# Altium integrated library Xilinx Virtex-E.IntLib: 288 symbols (part 1 of 73)
Pins are listed as number, name and electrical type; pins without a type are passive.

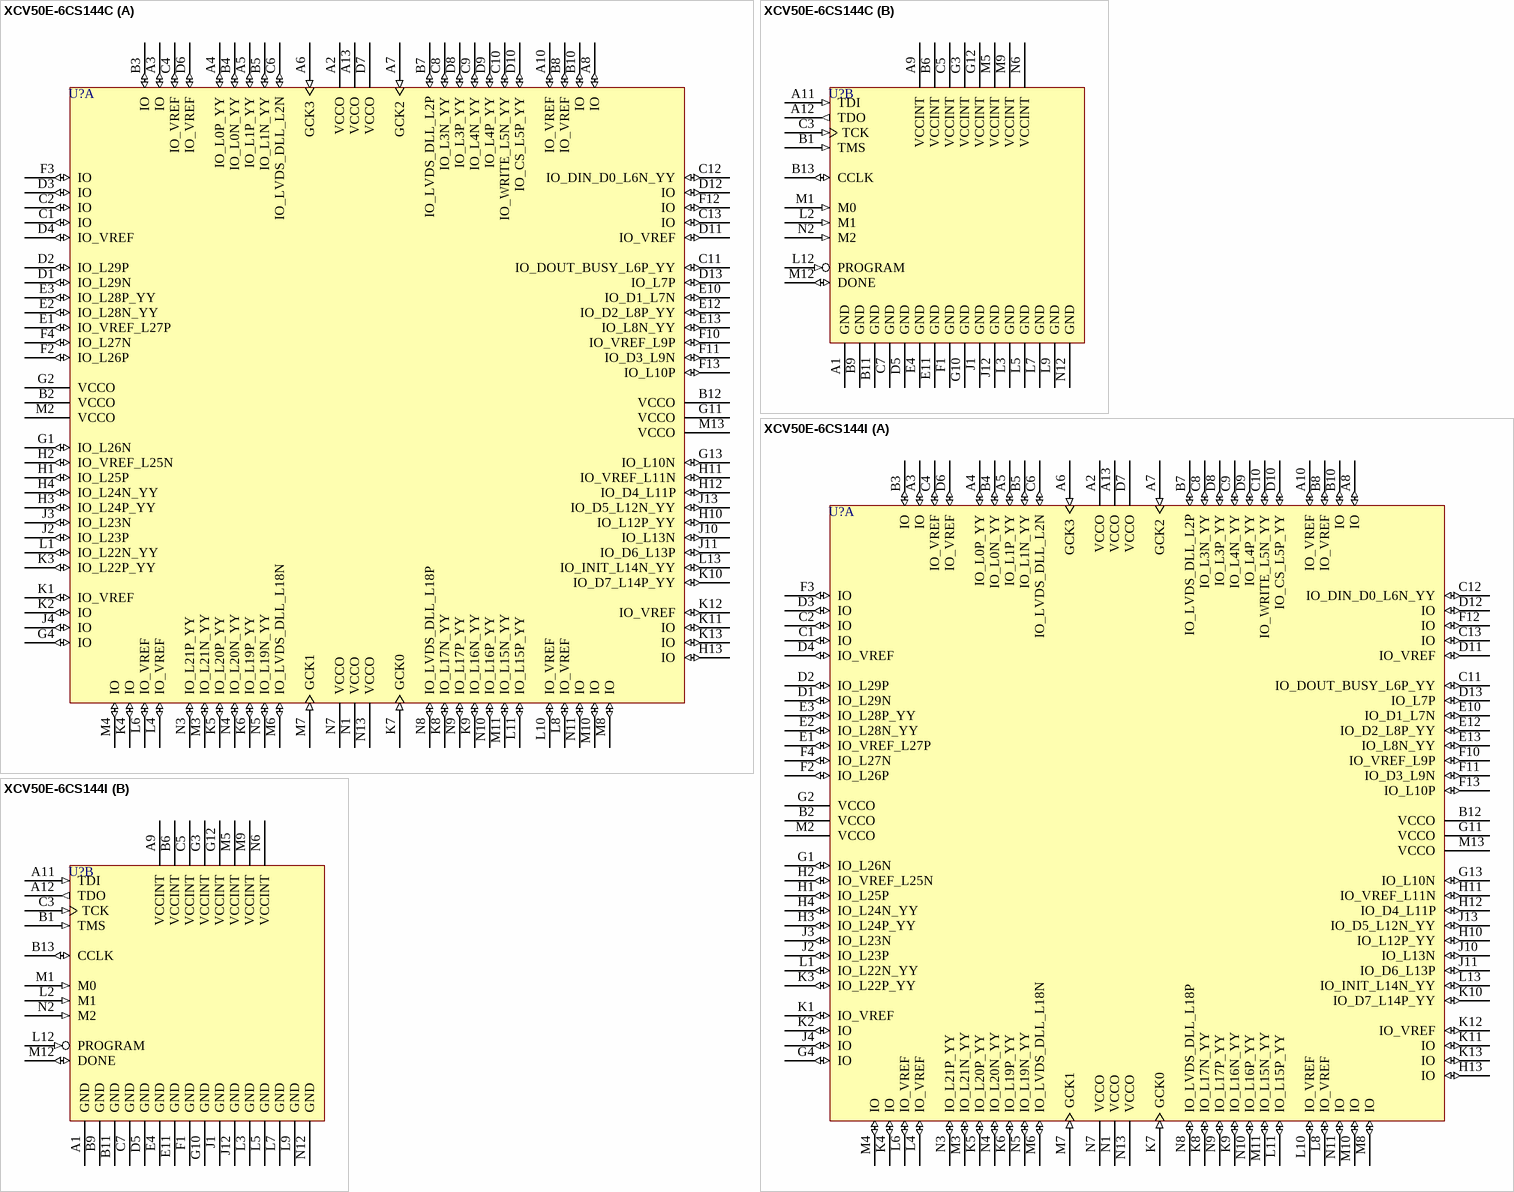
[diagram p0: symbols XCV50E-6CS144C to XCV50E-6CS144I]

## XCV50E-6CS144C
designator U?
Virtex-E 1.8V FPGA, 144-Ball CSBGA, Commercial Grade; PackageDocument: ver1.0, Jun-2000; Note: Solder pads are defined by the copper, i.e. non-soldermask defined (NSMD); Published: 19-Sep-2001; LatestRevisionDate: 17-Sep-2003; LatestRevisionNote: PCB Footprint dimensions updated; DatasheetDocument: Mar-2003; PackageReference: CS144; Publisher: Altium Limited
footprint CS144 (144-Ball Chip Scale Ball Grid Array (CS144))
3D model XCV50E-CS144 (144-Ball Chip Scale Ball Grid Array (CS144))
signal-integrity model XCV50E_CS144 (Virtex-E)
part A pins: A2 VCCO (power), A3 IO (io), A4 IO_L0P_YY (io), A5 IO_L1P_YY (io), A6 GCK3 (in), A7 GCK2 (in), A8 IO (io), A10 IO_VREF (io), A13 VCCO (power), B2 VCCO (power), B3 IO (io), B4 IO_L0N_YY (io), B5 IO_L1N_YY (io), B7 IO_LVDS_DLL_L2P (io), B8 IO_VREF (io), B10 IO (io), B12 VCCO (power), C1 IO (io), C2 IO (io), C4 IO_VREF (io), C6 IO_LVDS_DLL_L2N (io), C8 IO_L3N_YY (io), C9 IO_L4N_YY (io), C10 IO_WRITE_L5N_YY (io), C11 IO_DOUT_BUSY_L6P_YY (io), C12 IO_DIN_D0_L6N_YY (io), C13 IO (io), D1 IO_L29N (io), D2 IO_L29P (io), D3 IO (io), D4 IO_VREF (io), D6 IO_VREF (io), D7 VCCO (power), D8 IO_L3P_YY (io), D9 IO_L4P_YY (io), D10 IO_CS_L5P_YY (io), D11 IO_VREF (io), D12 IO (io), D13 IO_L7P (io), E1 IO_VREF_L27P (io), E2 IO_L28N_YY (io), E3 IO_L28P_YY (io), E10 IO_D1_L7N (io), E12 IO_D2_L8P_YY (io), E13 IO_L8N_YY (io), F2 IO_L26P (io), F3 IO (io), F4 IO_L27N (io), F10 IO_VREF_L9P (io), F11 IO_D3_L9N (io), F12 IO (io), F13 IO_L10P (io), G1 IO_L26N (io), G2 VCCO (power), G4 IO (io), G11 VCCO (power), G13 IO_L10N (io), H1 IO_L25P (io), H2 IO_VREF_L25N (io), H3 IO_L24P_YY (io), H4 IO_L24N_YY (io), H10 IO_L12P_YY (io), H11 IO_VREF_L11N (io), H12 IO_D4_L11P (io), H13 IO (io), J2 IO_L23P (io), J3 IO_L23N (io), J4 IO (io), J10 IO_L13N (io), J11 IO_D6_L13P (io), J13 IO_D5_L12N_YY (io), K1 IO_VREF (io), K2 IO (io), K3 IO_L22P_YY (io), K4 IO (io), K5 IO_L20P_YY (io), K6 IO_L19P_YY (io), K7 GCK0 (in), K8 IO_L17N_YY (io), K9 IO_L16N_YY (io), K10 IO_D7_L14P_YY (io), K11 IO (io), K12 IO_VREF (io), K13 IO (io), L1 IO_L22N_YY (io), L4 IO_VREF (io), L6 IO_VREF (io), L8 IO_VREF (io), L10 IO_VREF (io), L11 IO_L15P_YY (io), L13 IO_INIT_L14N_YY (io), M2 VCCO (power), M3 IO_L21N_YY (io), M4 IO (io), M6 IO_LVDS_DLL_L18N (io), M7 GCK1 (in), M8 IO (io), M10 IO (io), M11 IO_L15N_YY (io), M13 VCCO (power), N1 VCCO (power), N3 IO_L21P_YY (io), N4 IO_L20N_YY (io), N5 IO_L19N_YY (io), N7 VCCO (power), N8 IO_LVDS_DLL_L18P (io), N9 IO_L17P_YY (io), N10 IO_L16P_YY (io), N11 IO (io), N13 VCCO (power)
part B pins: A1 GND (power), A9 VCCINT (power), A11 TDI (in), A12 TDO (out), B1 TMS (in), B6 VCCINT (power), B9 GND (power), B11 GND (power), B13 CCLK (io), C3 TCK (in), C5 VCCINT (power), C7 GND (power), D5 GND (power), E4 GND (power), E11 GND (power), F1 GND (power), G3 VCCINT (power), G10 GND (power), G12 VCCINT (power), J1 GND (power), J12 GND (power), L2 M1 (in), L3 GND (power), L5 GND (power), L7 GND (power), L9 GND (power), L12 PROGRAM (in), M1 M0 (in), M5 VCCINT (power), M9 VCCINT (power), M12 DONE (io), N2 M2 (in), N6 VCCINT (power), N12 GND (power)

## XCV50E-6CS144I
designator U?
Virtex-E 1.8V FPGA, 144-Ball CSBGA, Industrial Grade; PackageDocument: ver1.0, Jun-2000; Note: Solder pads are defined by the copper, i.e. non-soldermask defined (NSMD); Published: 19-Sep-2001; LatestRevisionDate: 17-Sep-2003; LatestRevisionNote: PCB Footprint dimensions updated; DatasheetDocument: Mar-2003; PackageReference: CS144; Publisher: Altium Limited
footprint CS144 (144-Ball Chip Scale Ball Grid Array (CS144))
3D model XCV50E-CS144 (144-Ball Chip Scale Ball Grid Array (CS144))
signal-integrity model XCV50E_CS144 (Virtex-E)
part A pins: A2 VCCO (power), A3 IO (io), A4 IO_L0P_YY (io), A5 IO_L1P_YY (io), A6 GCK3 (in), A7 GCK2 (in), A8 IO (io), A10 IO_VREF (io), A13 VCCO (power), B2 VCCO (power), B3 IO (io), B4 IO_L0N_YY (io), B5 IO_L1N_YY (io), B7 IO_LVDS_DLL_L2P (io), B8 IO_VREF (io), B10 IO (io), B12 VCCO (power), C1 IO (io), C2 IO (io), C4 IO_VREF (io), C6 IO_LVDS_DLL_L2N (io), C8 IO_L3N_YY (io), C9 IO_L4N_YY (io), C10 IO_WRITE_L5N_YY (io), C11 IO_DOUT_BUSY_L6P_YY (io), C12 IO_DIN_D0_L6N_YY (io), C13 IO (io), D1 IO_L29N (io), D2 IO_L29P (io), D3 IO (io), D4 IO_VREF (io), D6 IO_VREF (io), D7 VCCO (power), D8 IO_L3P_YY (io), D9 IO_L4P_YY (io), D10 IO_CS_L5P_YY (io), D11 IO_VREF (io), D12 IO (io), D13 IO_L7P (io), E1 IO_VREF_L27P (io), E2 IO_L28N_YY (io), E3 IO_L28P_YY (io), E10 IO_D1_L7N (io), E12 IO_D2_L8P_YY (io), E13 IO_L8N_YY (io), F2 IO_L26P (io), F3 IO (io), F4 IO_L27N (io), F10 IO_VREF_L9P (io), F11 IO_D3_L9N (io), F12 IO (io), F13 IO_L10P (io), G1 IO_L26N (io), G2 VCCO (power), G4 IO (io), G11 VCCO (power), G13 IO_L10N (io), H1 IO_L25P (io), H2 IO_VREF_L25N (io), H3 IO_L24P_YY (io), H4 IO_L24N_YY (io), H10 IO_L12P_YY (io), H11 IO_VREF_L11N (io), H12 IO_D4_L11P (io), H13 IO (io), J2 IO_L23P (io), J3 IO_L23N (io), J4 IO (io), J10 IO_L13N (io), J11 IO_D6_L13P (io), J13 IO_D5_L12N_YY (io), K1 IO_VREF (io), K2 IO (io), K3 IO_L22P_YY (io), K4 IO (io), K5 IO_L20P_YY (io), K6 IO_L19P_YY (io), K7 GCK0 (in), K8 IO_L17N_YY (io), K9 IO_L16N_YY (io), K10 IO_D7_L14P_YY (io), K11 IO (io), K12 IO_VREF (io), K13 IO (io), L1 IO_L22N_YY (io), L4 IO_VREF (io), L6 IO_VREF (io), L8 IO_VREF (io), L10 IO_VREF (io), L11 IO_L15P_YY (io), L13 IO_INIT_L14N_YY (io), M2 VCCO (power), M3 IO_L21N_YY (io), M4 IO (io), M6 IO_LVDS_DLL_L18N (io), M7 GCK1 (in), M8 IO (io), M10 IO (io), M11 IO_L15N_YY (io), M13 VCCO (power), N1 VCCO (power), N3 IO_L21P_YY (io), N4 IO_L20N_YY (io), N5 IO_L19N_YY (io), N7 VCCO (power), N8 IO_LVDS_DLL_L18P (io), N9 IO_L17P_YY (io), N10 IO_L16P_YY (io), N11 IO (io), N13 VCCO (power)
part B pins: A1 GND (power), A9 VCCINT (power), A11 TDI (in), A12 TDO (out), B1 TMS (in), B6 VCCINT (power), B9 GND (power), B11 GND (power), B13 CCLK (io), C3 TCK (in), C5 VCCINT (power), C7 GND (power), D5 GND (power), E4 GND (power), E11 GND (power), F1 GND (power), G3 VCCINT (power), G10 GND (power), G12 VCCINT (power), J1 GND (power), J12 GND (power), L2 M1 (in), L3 GND (power), L5 GND (power), L7 GND (power), L9 GND (power), L12 PROGRAM (in), M1 M0 (in), M5 VCCINT (power), M9 VCCINT (power), M12 DONE (io), N2 M2 (in), N6 VCCINT (power), N12 GND (power)

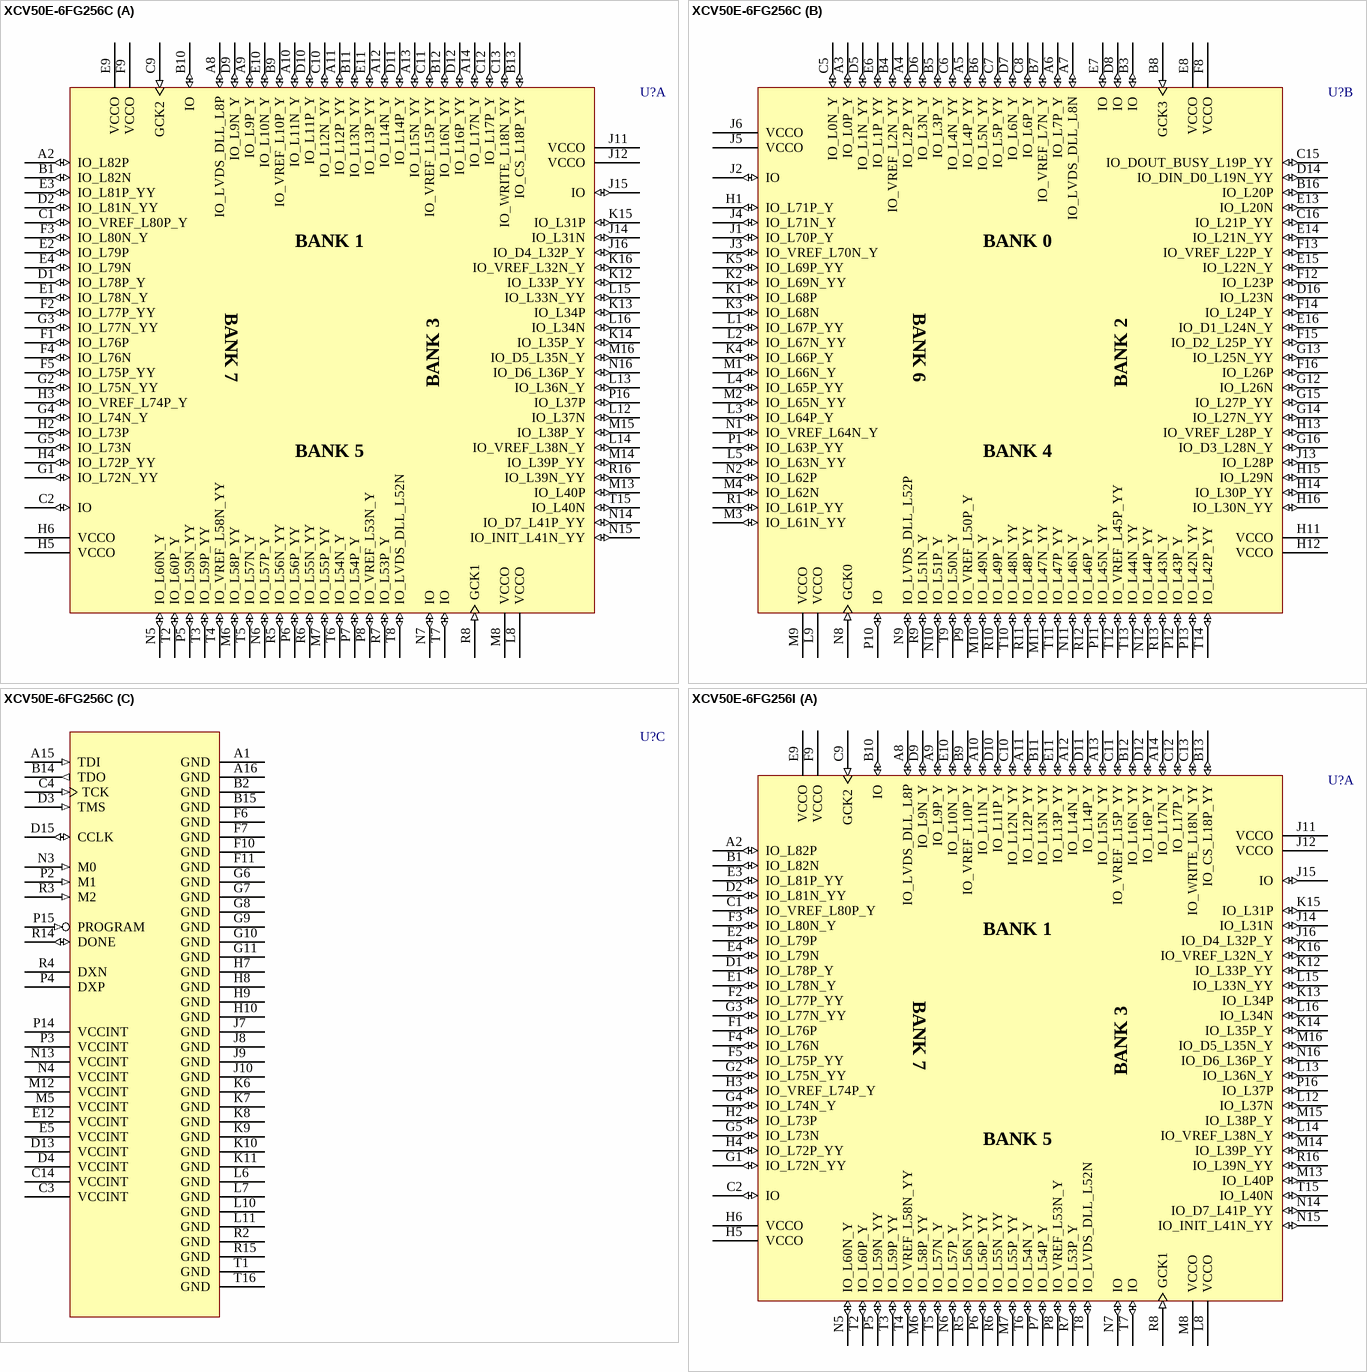
[diagram p1: symbols XCV50E-6FG256C to XCV50E-6FG256I]

## XCV50E-6FG256C
designator U?
Virtex-E 1.8V FPGA, 256-Ball FBGA, Commercial Grade; PackageDocument: ver1.1, Apr-2001; Note: Solder pads are defined by the copper, i.e. non-soldermask defined (NSMD); Published: 19-Sep-2001; LatestRevisionDate: 17-Jul-2002; LatestRevisionNote: Re-released for DXP Platform.; DatasheetDocument: Mar-2003; PackageReference: FG256; Publisher: Altium Limited; Code_JEDEC: MO-151-AAF-1; Code_IPC: PBGA 17X17 FE256
footprint FG256 (256-Ball Fine Pitch Ball Grid Array (FG256))
3D model XCV50E-FG256 (256-Ball Fine Pitch Ball Grid Array (FG256))
signal-integrity model XCV50E_FG256 (Virtex-E)
part A pins: A2 IO_L82P (io), A8 IO_LVDS_DLL_L8P (io), A9 IO_L9P_Y (io), A10 IO_L11N_Y (io), A11 IO_L12P_YY (io), A12 IO_L14N_Y (io), A13 IO_L15N_YY (io), A14 IO_L17N_Y (io), B1 IO_L82N (io), B9 IO_VREF_L10P_Y (io), B10 IO (io), B11 IO_L13N_YY (io), B12 IO_L16N_YY (io), B13 IO_CS_L18P_YY (io), C1 IO_VREF_L80P_Y (io), C2 IO (io), C9 GCK2 (in), C10 IO_L12N_YY (io), C11 IO_VREF_L15P_YY (io), C12 IO_L17P_Y (io), C13 IO_WRITE_L18N_YY (io), D1 IO_L78P_Y (io), D2 IO_L81N_YY (io), D9 IO_L9N_Y (io), D10 IO_L11P_Y (io), D11 IO_L14P_Y (io), D12 IO_L16P_YY (io), E1 IO_L78N_Y (io), E2 IO_L79P (io), E3 IO_L81P_YY (io), E4 IO_L79N (io), E9 VCCO (power), E10 IO_L10N_Y (io), E11 IO_L13P_YY (io), F1 IO_L76P (io), F2 IO_L77P_YY (io), F3 IO_L80N_Y (io), F4 IO_L76N (io), F5 IO_L75P_YY (io), F9 VCCO (power), G1 IO_L72N_YY (io), G2 IO_L75N_YY (io), G3 IO_L77N_YY (io), G4 IO_L74N_Y (io), G5 IO_L73N (io), H2 IO_L73P (io), H3 IO_VREF_L74P_Y (io), H4 IO_L72P_YY (io), H5 VCCO (power), H6 VCCO (power), J11 VCCO (power), J12 VCCO (power), J14 IO_L31N (io), J15 IO (io), J16 IO_D4_L32P_Y (io), K12 IO_L33P_YY (io), K13 IO_L34P (io), K14 IO_L35P_Y (io), K15 IO_L31P (io), K16 IO_VREF_L32N_Y (io), L8 VCCO (power), L12 IO_L37N (io), L13 IO_L36N_Y (io), L14 IO_VREF_L38N_Y (io), L15 IO_L33N_YY (io), L16 IO_L34N (io), M6 IO_L58P_YY (io), M7 IO_L55P_YY (io), M8 VCCO (power), M13 IO_L40P (io), M14 IO_L39P_YY (io), M15 IO_L38P_Y (io), M16 IO_D5_L35N_Y (io), N5 IO_L60N_Y (io), N6 IO_L57P_Y (io), N7 IO (io), N14 IO_D7_L41P_YY (io), N15 IO_INIT_L41N_YY (io), N16 IO_D6_L36P_Y (io), P5 IO_L59N_YY (io), P6 IO_L56P_YY (io), P7 IO_L54P_Y (io), P8 IO_VREF_L53N_Y (io), P16 IO_L37P (io), R5 IO_L56N_YY (io), R6 IO_L55N_YY (io), R7 IO_L53P_Y (io), R8 GCK1 (in), R16 IO_L39N_YY (io), T2 IO_L60P_Y (io), T3 IO_L59P_YY (io), T4 IO_VREF_L58N_YY (io), T5 IO_L57N_Y (io), T6 IO_L54N_Y (io), T7 IO (io), T8 IO_LVDS_DLL_L52N (io), T15 IO_L40N (io)
part B pins: A3 IO_L0P_Y (io), A4 IO_L2P_YY (io), A5 IO_L4P_YY (io), A6 IO_L7P_Y (io), A7 IO_LVDS_DLL_L8N (io), B3 IO (io), B4 IO_VREF_L2N_YY (io), B5 IO_L3P_Y (io), B6 IO_L5N_YY (io), B7 IO_VREF_L7N_Y (io), B8 GCK3 (in), B16 IO_L20P (io), C5 IO_L0N_Y (io), C6 IO_L4N_YY (io), C7 IO_L5P_YY (io), C8 IO_L6P_Y (io), C15 IO_DOUT_BUSY_L19P_YY (io), C16 IO_L21P_YY (io), D5 IO_L1N_YY (io), D6 IO_L3N_Y (io), D7 IO_L6N_Y (io), D8 IO (io), D14 IO_DIN_D0_L19N_YY (io), D16 IO_L23N (io), E6 IO_L1P_YY (io), E7 IO (io), E8 VCCO (power), E13 IO_L20N (io), E14 IO_L21N_YY (io), E15 IO_L22N_Y (io), E16 IO_D1_L24N_Y (io), F8 VCCO (power), F12 IO_L23P (io), F13 IO_VREF_L22P_Y (io), F14 IO_L24P_Y (io), F15 IO_D2_L25P_YY (io), F16 IO_L26P (io), G12 IO_L26N (io), G13 IO_L25N_YY (io), G14 IO_L27N_YY (io), G15 IO_L27P_YY (io), G16 IO_D3_L28N_Y (io), H1 IO_L71P_Y (io), H11 VCCO (power), H12 VCCO (power), H13 IO_VREF_L28P_Y (io), H14 IO_L30P_YY (io), H15 IO_L29N (io), H16 IO_L30N_YY (io), J1 IO_L70P_Y (io), J2 IO (io), J3 IO_VREF_L70N_Y (io), J4 IO_L71N_Y (io), J5 VCCO (power), J6 VCCO (power), J13 IO_L28P (io), K1 IO_L68P (io), K2 IO_L69N_YY (io), K3 IO_L68N (io), K4 IO_L66P_Y (io), K5 IO_L69P_YY (io), L1 IO_L67P_YY (io), L2 IO_L67N_YY (io), L3 IO_L64P_Y (io), L4 IO_L65P_YY (io), L5 IO_L63N_YY (io), L9 VCCO (power), M1 IO_L66N_Y (io), M2 IO_L65N_YY (io), M3 IO_L61N_YY (io), M4 IO_L62N (io), M9 VCCO (power), M10 IO_L49N_Y (io), M11 IO_L47N_YY (io), N1 IO_VREF_L64N_Y (io), N2 IO_L62P (io), N8 GCK0 (in), N9 IO_LVDS_DLL_L52P (io), N10 IO_L51P_Y (io), N11 IO_L46N_Y (io), N12 IO_L44P_YY (io), P1 IO_L63P_YY (io), P9 IO_VREF_L50P_Y (io), P10 IO (io), P11 IO_L45N_YY (io), P12 IO_L43P_Y (io), P13 IO_L42N_YY (io), R1 IO_L61P_YY (io), R9 IO_L51N_Y (io), R10 IO_L49P_Y (io), R11 IO_L48P_YY (io), R12 IO_L46P_Y (io), R13 IO_L43N_Y (io), T9 IO_L50N_Y (io), T10 IO_L48N_YY (io), T11 IO_L47P_YY (io), T12 IO_VREF_L45P_YY (io), T13 IO_L44N_YY (io), T14 IO_L42P_YY (io)
part C pins: A1 GND (power), A15 TDI (in), A16 GND (power), B2 GND (power), B14 TDO (out), B15 GND (power), C3 VCCINT (power), C4 TCK (in), C14 VCCINT (power), D3 TMS (in), D4 VCCINT (power), D13 VCCINT (power), D15 CCLK (io), E5 VCCINT (power), E12 VCCINT (power), F6 GND (power), F7 GND (power), F10 GND (power), F11 GND (power), G6 GND (power), G7 GND (power), G8 GND (power), G9 GND (power), G10 GND (power), G11 GND (power), H7 GND (power), H8 GND (power), H9 GND (power), H10 GND (power), J7 GND (power), J8 GND (power), J9 GND (power), J10 GND (power), K6 GND (power), K7 GND (power), K8 GND (power), K9 GND (power), K10 GND (power), K11 GND (power), L6 GND (power), L7 GND (power), L10 GND (power), L11 GND (power), M5 VCCINT (power), M12 VCCINT (power), N3 M0 (in), N4 VCCINT (power), N13 VCCINT (power), P2 M1 (in), P3 VCCINT (power), P4 DXP, P14 VCCINT (power), P15 PROGRAM (in), R2 GND (power), R3 M2 (in), R4 DXN, R14 DONE (io), R15 GND (power), T1 GND (power), T16 GND (power)
part A text: BANK 1; BANK 7; BANK 3; BANK 5
part B text: BANK 0; BANK 6; BANK 2; BANK 4

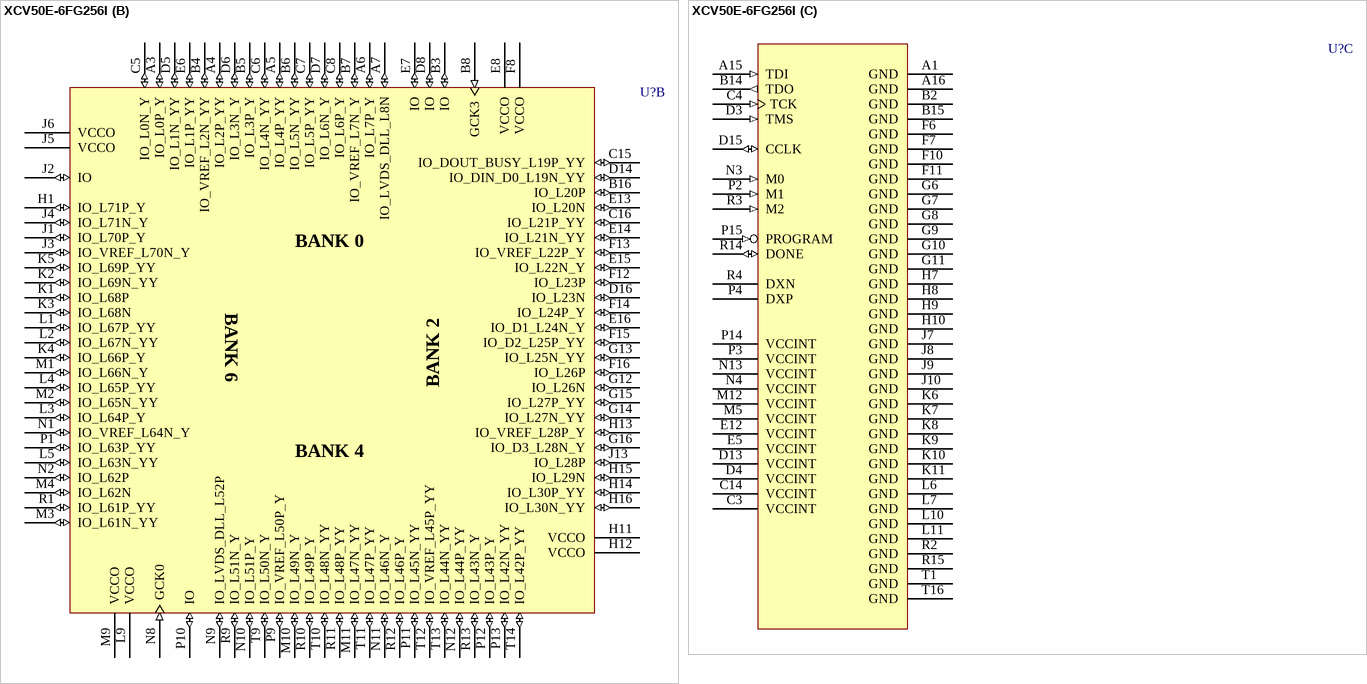
[diagram p2: symbol XCV50E-6FG256I]

## XCV50E-6FG256I
designator U?
Virtex-E 1.8V FPGA, 256-Ball FBGA, Industrial Grade; PackageDocument: ver1.1, Apr-2001; Note: Solder pads are defined by the copper, i.e. non-soldermask defined (NSMD); Published: 19-Sep-2001; LatestRevisionDate: 17-Jul-2002; LatestRevisionNote: Re-released for DXP Platform.; DatasheetDocument: Mar-2003; PackageReference: FG256; Publisher: Altium Limited; Code_JEDEC: MO-151-AAF-1; Code_IPC: PBGA 17X17 FE256
footprint FG256 (256-Ball Fine Pitch Ball Grid Array (FG256))
3D model XCV50E-FG256 (256-Ball Fine Pitch Ball Grid Array (FG256))
signal-integrity model XCV50E_FG256 (Virtex-E)
part A pins: A2 IO_L82P (io), A8 IO_LVDS_DLL_L8P (io), A9 IO_L9P_Y (io), A10 IO_L11N_Y (io), A11 IO_L12P_YY (io), A12 IO_L14N_Y (io), A13 IO_L15N_YY (io), A14 IO_L17N_Y (io), B1 IO_L82N (io), B9 IO_VREF_L10P_Y (io), B10 IO (io), B11 IO_L13N_YY (io), B12 IO_L16N_YY (io), B13 IO_CS_L18P_YY (io), C1 IO_VREF_L80P_Y (io), C2 IO (io), C9 GCK2 (in), C10 IO_L12N_YY (io), C11 IO_VREF_L15P_YY (io), C12 IO_L17P_Y (io), C13 IO_WRITE_L18N_YY (io), D1 IO_L78P_Y (io), D2 IO_L81N_YY (io), D9 IO_L9N_Y (io), D10 IO_L11P_Y (io), D11 IO_L14P_Y (io), D12 IO_L16P_YY (io), E1 IO_L78N_Y (io), E2 IO_L79P (io), E3 IO_L81P_YY (io), E4 IO_L79N (io), E9 VCCO (power), E10 IO_L10N_Y (io), E11 IO_L13P_YY (io), F1 IO_L76P (io), F2 IO_L77P_YY (io), F3 IO_L80N_Y (io), F4 IO_L76N (io), F5 IO_L75P_YY (io), F9 VCCO (power), G1 IO_L72N_YY (io), G2 IO_L75N_YY (io), G3 IO_L77N_YY (io), G4 IO_L74N_Y (io), G5 IO_L73N (io), H2 IO_L73P (io), H3 IO_VREF_L74P_Y (io), H4 IO_L72P_YY (io), H5 VCCO (power), H6 VCCO (power), J11 VCCO (power), J12 VCCO (power), J14 IO_L31N (io), J15 IO (io), J16 IO_D4_L32P_Y (io), K12 IO_L33P_YY (io), K13 IO_L34P (io), K14 IO_L35P_Y (io), K15 IO_L31P (io), K16 IO_VREF_L32N_Y (io), L8 VCCO (power), L12 IO_L37N (io), L13 IO_L36N_Y (io), L14 IO_VREF_L38N_Y (io), L15 IO_L33N_YY (io), L16 IO_L34N (io), M6 IO_L58P_YY (io), M7 IO_L55P_YY (io), M8 VCCO (power), M13 IO_L40P (io), M14 IO_L39P_YY (io), M15 IO_L38P_Y (io), M16 IO_D5_L35N_Y (io), N5 IO_L60N_Y (io), N6 IO_L57P_Y (io), N7 IO (io), N14 IO_D7_L41P_YY (io), N15 IO_INIT_L41N_YY (io), N16 IO_D6_L36P_Y (io), P5 IO_L59N_YY (io), P6 IO_L56P_YY (io), P7 IO_L54P_Y (io), P8 IO_VREF_L53N_Y (io), P16 IO_L37P (io), R5 IO_L56N_YY (io), R6 IO_L55N_YY (io), R7 IO_L53P_Y (io), R8 GCK1 (in), R16 IO_L39N_YY (io), T2 IO_L60P_Y (io), T3 IO_L59P_YY (io), T4 IO_VREF_L58N_YY (io), T5 IO_L57N_Y (io), T6 IO_L54N_Y (io), T7 IO (io), T8 IO_LVDS_DLL_L52N (io), T15 IO_L40N (io)
part B pins: A3 IO_L0P_Y (io), A4 IO_L2P_YY (io), A5 IO_L4P_YY (io), A6 IO_L7P_Y (io), A7 IO_LVDS_DLL_L8N (io), B3 IO (io), B4 IO_VREF_L2N_YY (io), B5 IO_L3P_Y (io), B6 IO_L5N_YY (io), B7 IO_VREF_L7N_Y (io), B8 GCK3 (in), B16 IO_L20P (io), C5 IO_L0N_Y (io), C6 IO_L4N_YY (io), C7 IO_L5P_YY (io), C8 IO_L6P_Y (io), C15 IO_DOUT_BUSY_L19P_YY (io), C16 IO_L21P_YY (io), D5 IO_L1N_YY (io), D6 IO_L3N_Y (io), D7 IO_L6N_Y (io), D8 IO (io), D14 IO_DIN_D0_L19N_YY (io), D16 IO_L23N (io), E6 IO_L1P_YY (io), E7 IO (io), E8 VCCO (power), E13 IO_L20N (io), E14 IO_L21N_YY (io), E15 IO_L22N_Y (io), E16 IO_D1_L24N_Y (io), F8 VCCO (power), F12 IO_L23P (io), F13 IO_VREF_L22P_Y (io), F14 IO_L24P_Y (io), F15 IO_D2_L25P_YY (io), F16 IO_L26P (io), G12 IO_L26N (io), G13 IO_L25N_YY (io), G14 IO_L27N_YY (io), G15 IO_L27P_YY (io), G16 IO_D3_L28N_Y (io), H1 IO_L71P_Y (io), H11 VCCO (power), H12 VCCO (power), H13 IO_VREF_L28P_Y (io), H14 IO_L30P_YY (io), H15 IO_L29N (io), H16 IO_L30N_YY (io), J1 IO_L70P_Y (io), J2 IO (io), J3 IO_VREF_L70N_Y (io), J4 IO_L71N_Y (io), J5 VCCO (power), J6 VCCO (power), J13 IO_L28P (io), K1 IO_L68P (io), K2 IO_L69N_YY (io), K3 IO_L68N (io), K4 IO_L66P_Y (io), K5 IO_L69P_YY (io), L1 IO_L67P_YY (io), L2 IO_L67N_YY (io), L3 IO_L64P_Y (io), L4 IO_L65P_YY (io), L5 IO_L63N_YY (io), L9 VCCO (power), M1 IO_L66N_Y (io), M2 IO_L65N_YY (io), M3 IO_L61N_YY (io), M4 IO_L62N (io), M9 VCCO (power), M10 IO_L49N_Y (io), M11 IO_L47N_YY (io), N1 IO_VREF_L64N_Y (io), N2 IO_L62P (io), N8 GCK0 (in), N9 IO_LVDS_DLL_L52P (io), N10 IO_L51P_Y (io), N11 IO_L46N_Y (io), N12 IO_L44P_YY (io), P1 IO_L63P_YY (io), P9 IO_VREF_L50P_Y (io), P10 IO (io), P11 IO_L45N_YY (io), P12 IO_L43P_Y (io), P13 IO_L42N_YY (io), R1 IO_L61P_YY (io), R9 IO_L51N_Y (io), R10 IO_L49P_Y (io), R11 IO_L48P_YY (io), R12 IO_L46P_Y (io), R13 IO_L43N_Y (io), T9 IO_L50N_Y (io), T10 IO_L48N_YY (io), T11 IO_L47P_YY (io), T12 IO_VREF_L45P_YY (io), T13 IO_L44N_YY (io), T14 IO_L42P_YY (io)
part C pins: A1 GND (power), A15 TDI (in), A16 GND (power), B2 GND (power), B14 TDO (out), B15 GND (power), C3 VCCINT (power), C4 TCK (in), C14 VCCINT (power), D3 TMS (in), D4 VCCINT (power), D13 VCCINT (power), D15 CCLK (io), E5 VCCINT (power), E12 VCCINT (power), F6 GND (power), F7 GND (power), F10 GND (power), F11 GND (power), G6 GND (power), G7 GND (power), G8 GND (power), G9 GND (power), G10 GND (power), G11 GND (power), H7 GND (power), H8 GND (power), H9 GND (power), H10 GND (power), J7 GND (power), J8 GND (power), J9 GND (power), J10 GND (power), K6 GND (power), K7 GND (power), K8 GND (power), K9 GND (power), K10 GND (power), K11 GND (power), L6 GND (power), L7 GND (power), L10 GND (power), L11 GND (power), M5 VCCINT (power), M12 VCCINT (power), N3 M0 (in), N4 VCCINT (power), N13 VCCINT (power), P2 M1 (in), P3 VCCINT (power), P4 DXP, P14 VCCINT (power), P15 PROGRAM (in), R2 GND (power), R3 M2 (in), R4 DXN, R14 DONE (io), R15 GND (power), T1 GND (power), T16 GND (power)
part A text: BANK 1; BANK 7; BANK 3; BANK 5
part B text: BANK 0; BANK 6; BANK 2; BANK 4

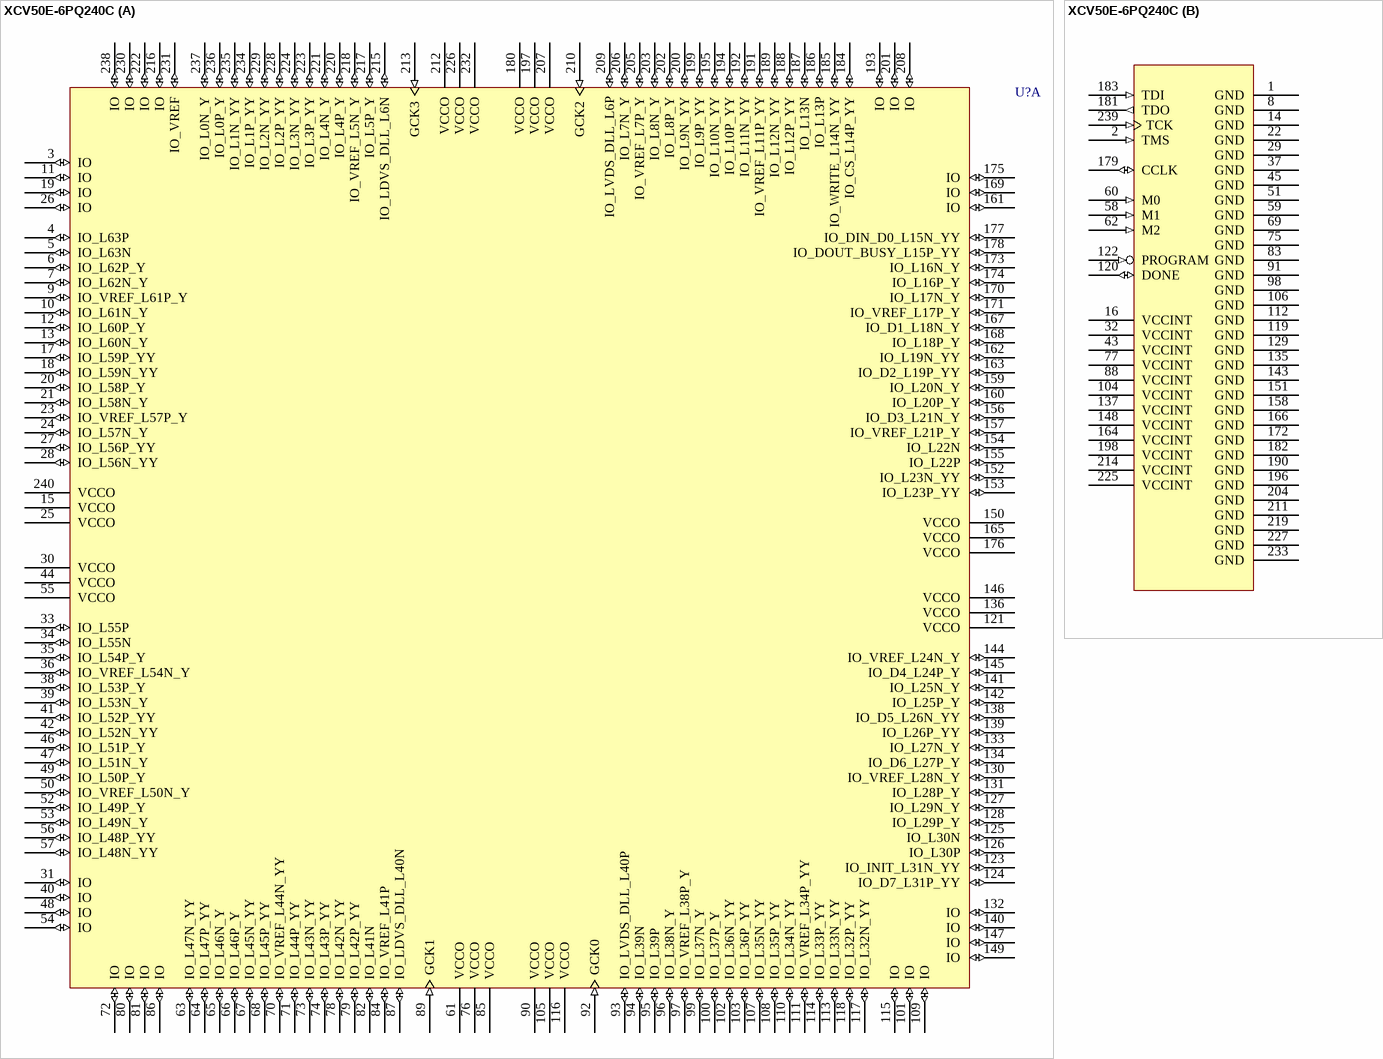
[diagram p3: symbol XCV50E-6PQ240C]

## XCV50E-6PQ240C
designator U?
Virtex-E 1.8V FPGA, 240-Pin PQFP, Commercial Grade; PackageDocument: ver1.1, Oct-2002; Published: 19-Sep-2001; LatestRevisionDate: 17-Jul-2002; LatestRevisionNote: Re-released for DXP Platform.; DatasheetDocument: Mar-2003; PackageReference: PQ240; Publisher: Altium Limited; Code_JEDEC: MO-143-GA
footprint PQ240 (240-Pin Plastic Quad Flat Pack (PQ240))
3D model XCV50E-PQ240 (240-Pin Plastic Quad Flat Pack (PQ240))
signal-integrity model XCV50E_PQ240 (Virtex-E)
part A pins: 3 IO (io), 4 IO_L63P (io), 5 IO_L63N (io), 6 IO_L62P_Y (io), 7 IO_L62N_Y (io), 9 IO_VREF_L61P_Y (io), 10 IO_L61N_Y (io), 11 IO (io), 12 IO_L60P_Y (io), 13 IO_L60N_Y (io), 15 VCCO (power), 17 IO_L59P_YY (io), 18 IO_L59N_YY (io), 19 IO (io), 20 IO_L58P_Y (io), 21 IO_L58N_Y (io), 23 IO_VREF_L57P_Y (io), 24 IO_L57N_Y (io), 25 VCCO (power), 26 IO (io), 27 IO_L56P_YY (io), 28 IO_L56N_YY (io), 30 VCCO (power), 31 IO (io), 33 IO_L55P (io), 34 IO_L55N (io), 35 IO_L54P_Y (io), 36 IO_VREF_L54N_Y (io), 38 IO_L53P_Y (io), 39 IO_L53N_Y (io), 40 IO (io), 41 IO_L52P_YY (io), 42 IO_L52N_YY (io), 44 VCCO (power), 46 IO_L51P_Y (io), 47 IO_L51N_Y (io), 48 IO (io), 49 IO_L50P_Y (io), 50 IO_VREF_L50N_Y (io), 52 IO_L49P_Y (io), 53 IO_L49N_Y (io), 54 IO (io), 55 VCCO (power), 56 IO_L48P_YY (io), 57 IO_L48N_YY (io), 61 VCCO (power), 63 IO_L47N_YY (io), 64 IO_L47P_YY (io), 65 IO_L46N_Y (io), 66 IO_L46P_Y (io), 67 IO_L45N_YY (io), 68 IO_L45P_YY (io), 70 IO_VREF_L44N_YY (io), 71 IO_L44P_YY (io), 72 IO (io), 73 IO_L43N_YY (io), 74 IO_L43P_YY (io), 76 VCCO (power), 78 IO_L42N_YY (io), 79 IO_L42P_YY (io), 80 IO (io), 81 IO (io), 82 IO_L41N (io), 84 IO_VREF_L41P (io), 85 VCCO (power), 86 IO (io), 87 IO_LDVS_DLL_L40N (io), 89 GCK1 (in), 90 VCCO (power), 92 GCK0 (in), 93 IO_LVDS_DLL_L40P (io), 94 IO_L39N (io), 95 IO_L39P (io), 96 IO_L38N_Y (io), 97 IO_VREF_L38P_Y (io), 99 IO_L37N_Y (io), 100 IO_L37P_Y (io), 101 IO (io), 102 IO_L36N_YY (io), 103 IO_L36P_YY (io), 105 VCCO (power), 107 IO_L35N_YY (io), 108 IO_L35P_YY (io), 109 IO (io), 110 IO_L34N_YY (io), 111 IO_VREF_L34P_YY (io), 113 IO_L33N_YY (io), 114 IO_L33P_YY (io), 115 IO (io), 116 VCCO (power), 117 IO_L32N_YY (io), 118 IO_L32P_YY (io), 121 VCCO (power), 123 IO_INIT_L31N_YY (io), 124 IO_D7_L31P_YY (io), 125 IO_L30N (io), 126 IO_L30P (io), 127 IO_L29N_Y (io), 128 IO_L29P_Y (io), 130 IO_VREF_L28N_Y (io), 131 IO_L28P_Y (io), 132 IO (io), 133 IO_L27N_Y (io), 134 IO_D6_L27P_Y (io), 136 VCCO (power), 138 IO_D5_L26N_YY (io), 139 IO_L26P_YY (io), 140 IO (io), 141 IO_L25N_Y (io), 142 IO_L25P_Y (io), 144 IO_VREF_L24N_Y (io), 145 IO_D4_L24P_Y (io), 146 VCCO (power), 147 IO (io), 149 IO (io), 150 VCCO (power), 152 IO_L23N_YY (io), 153 IO_L23P_YY (io), 154 IO_L22N (io), 155 IO_L22P (io), 156 IO_D3_L21N_Y (io), 157 IO_VREF_L21P_Y (io), 159 IO_L20N_Y (io), 160 IO_L20P_Y (io), 161 IO (io), 162 IO_L19N_YY (io), 163 IO_D2_L19P_YY (io), 165 VCCO (power), 167 IO_D1_L18N_Y (io), 168 IO_L18P_Y (io), 169 IO (io), 170 IO_L17N_Y (io), 171 IO_VREF_L17P_Y (io), 173 IO_L16N_Y (io), 174 IO_L16P_Y (io), 175 IO (io), 176 VCCO (power), 177 IO_DIN_D0_L15N_YY (io), 178 IO_DOUT_BUSY_L15P_YY (io), 180 VCCO (power), 184 IO_CS_L14P_YY (io), 185 IO_WRITE_L14N_YY (io), 186 IO_L13P (io), 187 IO_L13N (io), 188 IO_L12P_YY (io), 189 IO_L12N_YY (io), 191 IO_VREF_L11P_YY (io), 192 IO_L11N_YY (io), 193 IO (io), 194 IO_L10P_YY (io), 195 IO_L10N_YY (io), 197 VCCO (power), 199 IO_L9P_YY (io), 200 IO_L9N_YY (io), 201 IO (io), 202 IO_L8P_Y (io), 203 IO_L8N_Y (io), 205 IO_VREF_L7P_Y (io), 206 IO_L7N_Y (io), 207 VCCO (power), 208 IO (io), 209 IO_LVDS_DLL_L6P (io), 210 GCK2 (in), 212 VCCO (power), 213 GCK3 (in), 215 IO_LDVS_DLL_L6N (io), 216 IO (io), 217 IO_L5P_Y (io), 218 IO_VREF_L5N_Y (io), 220 IO_L4P_Y (io), 221 IO_L4N_Y (io), 222 IO (io), 223 IO_L3P_YY (io), 224 IO_L3N_YY (io), 226 VCCO (power), 228 IO_L2P_YY (io), 229 IO_L2N_YY (io), 230 IO (io), 231 IO_VREF (io), 232 VCCO (power), 234 IO_L1P_YY (io), 235 IO_L1N_YY (io), 236 IO_L0P_Y (io), 237 IO_L0N_Y (io), 238 IO (io), 240 VCCO (power)
part B pins: 1 GND (power), 2 TMS (in), 8 GND (power), 14 GND (power), 16 VCCINT (power), 22 GND (power), 29 GND (power), 32 VCCINT (power), 37 GND (power), 43 VCCINT (power), 45 GND (power), 51 GND (power), 58 M1 (in), 59 GND (power), 60 M0 (in), 62 M2 (in), 69 GND (power), 75 GND (power), 77 VCCINT (power), 83 GND (power), 88 VCCINT (power), 91 GND (power), 98 GND (power), 104 VCCINT (power), 106 GND (power), 112 GND (power), 119 GND (power), 120 DONE (io), 122 PROGRAM (in), 129 GND (power), 135 GND (power), 137 VCCINT (power), 143 GND (power), 148 VCCINT (power), 151 GND (power), 158 GND (power), 164 VCCINT (power), 166 GND (power), 172 GND (power), 179 CCLK (io), 181 TDO (out), 182 GND (power), 183 TDI (in), 190 GND (power), 196 GND (power), 198 VCCINT (power), 204 GND (power), 211 GND (power), 214 VCCINT (power), 219 GND (power), 225 VCCINT (power), 227 GND (power), 233 GND (power), 239 TCK (in)

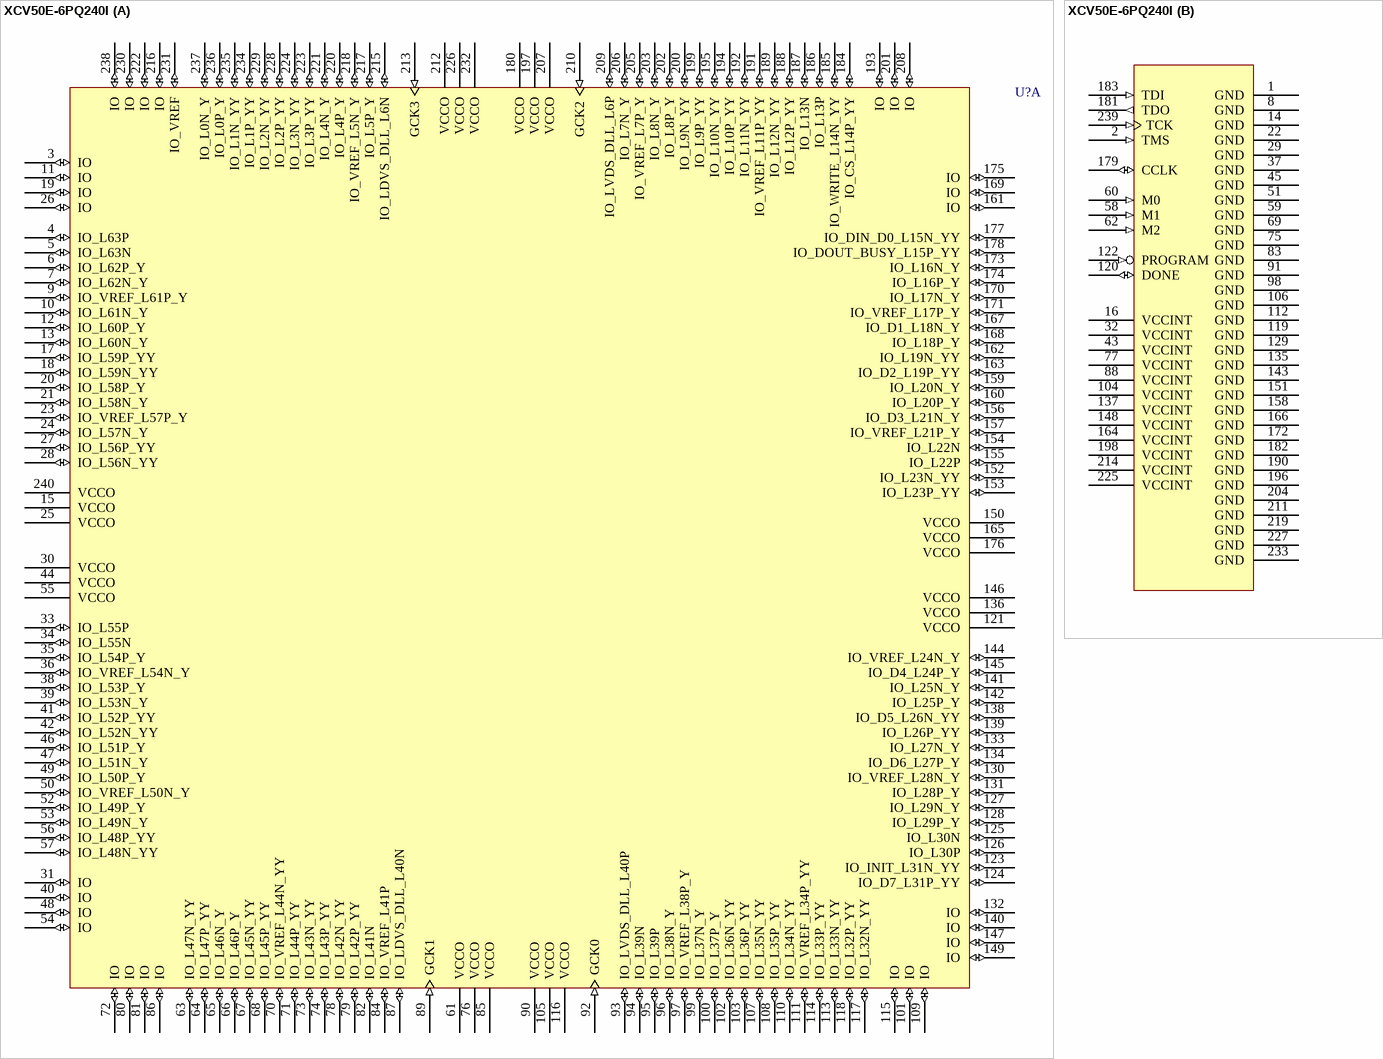
[diagram p4: symbol XCV50E-6PQ240I]

## XCV50E-6PQ240I
designator U?
Virtex-E 1.8V FPGA, 240-Pin PQFP, Industrial Grade; PackageDocument: ver1.1, Oct-2002; Published: 19-Sep-2001; LatestRevisionDate: 17-Jul-2002; LatestRevisionNote: Re-released for DXP Platform.; DatasheetDocument: Mar-2003; PackageReference: PQ240; Publisher: Altium Limited; Code_JEDEC: MO-143-GA
footprint PQ240 (240-Pin Plastic Quad Flat Pack (PQ240))
3D model XCV50E-PQ240 (240-Pin Plastic Quad Flat Pack (PQ240))
signal-integrity model XCV50E_PQ240 (Virtex-E)
part A pins: 3 IO (io), 4 IO_L63P (io), 5 IO_L63N (io), 6 IO_L62P_Y (io), 7 IO_L62N_Y (io), 9 IO_VREF_L61P_Y (io), 10 IO_L61N_Y (io), 11 IO (io), 12 IO_L60P_Y (io), 13 IO_L60N_Y (io), 15 VCCO (power), 17 IO_L59P_YY (io), 18 IO_L59N_YY (io), 19 IO (io), 20 IO_L58P_Y (io), 21 IO_L58N_Y (io), 23 IO_VREF_L57P_Y (io), 24 IO_L57N_Y (io), 25 VCCO (power), 26 IO (io), 27 IO_L56P_YY (io), 28 IO_L56N_YY (io), 30 VCCO (power), 31 IO (io), 33 IO_L55P (io), 34 IO_L55N (io), 35 IO_L54P_Y (io), 36 IO_VREF_L54N_Y (io), 38 IO_L53P_Y (io), 39 IO_L53N_Y (io), 40 IO (io), 41 IO_L52P_YY (io), 42 IO_L52N_YY (io), 44 VCCO (power), 46 IO_L51P_Y (io), 47 IO_L51N_Y (io), 48 IO (io), 49 IO_L50P_Y (io), 50 IO_VREF_L50N_Y (io), 52 IO_L49P_Y (io), 53 IO_L49N_Y (io), 54 IO (io), 55 VCCO (power), 56 IO_L48P_YY (io), 57 IO_L48N_YY (io), 61 VCCO (power), 63 IO_L47N_YY (io), 64 IO_L47P_YY (io), 65 IO_L46N_Y (io), 66 IO_L46P_Y (io), 67 IO_L45N_YY (io), 68 IO_L45P_YY (io), 70 IO_VREF_L44N_YY (io), 71 IO_L44P_YY (io), 72 IO (io), 73 IO_L43N_YY (io), 74 IO_L43P_YY (io), 76 VCCO (power), 78 IO_L42N_YY (io), 79 IO_L42P_YY (io), 80 IO (io), 81 IO (io), 82 IO_L41N (io), 84 IO_VREF_L41P (io), 85 VCCO (power), 86 IO (io), 87 IO_LDVS_DLL_L40N (io), 89 GCK1 (in), 90 VCCO (power), 92 GCK0 (in), 93 IO_LVDS_DLL_L40P (io), 94 IO_L39N (io), 95 IO_L39P (io), 96 IO_L38N_Y (io), 97 IO_VREF_L38P_Y (io), 99 IO_L37N_Y (io), 100 IO_L37P_Y (io), 101 IO (io), 102 IO_L36N_YY (io), 103 IO_L36P_YY (io), 105 VCCO (power), 107 IO_L35N_YY (io), 108 IO_L35P_YY (io), 109 IO (io), 110 IO_L34N_YY (io), 111 IO_VREF_L34P_YY (io), 113 IO_L33N_YY (io), 114 IO_L33P_YY (io), 115 IO (io), 116 VCCO (power), 117 IO_L32N_YY (io), 118 IO_L32P_YY (io), 121 VCCO (power), 123 IO_INIT_L31N_YY (io), 124 IO_D7_L31P_YY (io), 125 IO_L30N (io), 126 IO_L30P (io), 127 IO_L29N_Y (io), 128 IO_L29P_Y (io), 130 IO_VREF_L28N_Y (io), 131 IO_L28P_Y (io), 132 IO (io), 133 IO_L27N_Y (io), 134 IO_D6_L27P_Y (io), 136 VCCO (power), 138 IO_D5_L26N_YY (io), 139 IO_L26P_YY (io), 140 IO (io), 141 IO_L25N_Y (io), 142 IO_L25P_Y (io), 144 IO_VREF_L24N_Y (io), 145 IO_D4_L24P_Y (io), 146 VCCO (power), 147 IO (io), 149 IO (io), 150 VCCO (power), 152 IO_L23N_YY (io), 153 IO_L23P_YY (io), 154 IO_L22N (io), 155 IO_L22P (io), 156 IO_D3_L21N_Y (io), 157 IO_VREF_L21P_Y (io), 159 IO_L20N_Y (io), 160 IO_L20P_Y (io), 161 IO (io), 162 IO_L19N_YY (io), 163 IO_D2_L19P_YY (io), 165 VCCO (power), 167 IO_D1_L18N_Y (io), 168 IO_L18P_Y (io), 169 IO (io), 170 IO_L17N_Y (io), 171 IO_VREF_L17P_Y (io), 173 IO_L16N_Y (io), 174 IO_L16P_Y (io), 175 IO (io), 176 VCCO (power), 177 IO_DIN_D0_L15N_YY (io), 178 IO_DOUT_BUSY_L15P_YY (io), 180 VCCO (power), 184 IO_CS_L14P_YY (io), 185 IO_WRITE_L14N_YY (io), 186 IO_L13P (io), 187 IO_L13N (io), 188 IO_L12P_YY (io), 189 IO_L12N_YY (io), 191 IO_VREF_L11P_YY (io), 192 IO_L11N_YY (io), 193 IO (io), 194 IO_L10P_YY (io), 195 IO_L10N_YY (io), 197 VCCO (power), 199 IO_L9P_YY (io), 200 IO_L9N_YY (io), 201 IO (io), 202 IO_L8P_Y (io), 203 IO_L8N_Y (io), 205 IO_VREF_L7P_Y (io), 206 IO_L7N_Y (io), 207 VCCO (power), 208 IO (io), 209 IO_LVDS_DLL_L6P (io), 210 GCK2 (in), 212 VCCO (power), 213 GCK3 (in), 215 IO_LDVS_DLL_L6N (io), 216 IO (io), 217 IO_L5P_Y (io), 218 IO_VREF_L5N_Y (io), 220 IO_L4P_Y (io), 221 IO_L4N_Y (io), 222 IO (io), 223 IO_L3P_YY (io), 224 IO_L3N_YY (io), 226 VCCO (power), 228 IO_L2P_YY (io), 229 IO_L2N_YY (io), 230 IO (io), 231 IO_VREF (io), 232 VCCO (power), 234 IO_L1P_YY (io), 235 IO_L1N_YY (io), 236 IO_L0P_Y (io), 237 IO_L0N_Y (io), 238 IO (io), 240 VCCO (power)
part B pins: 1 GND (power), 2 TMS (in), 8 GND (power), 14 GND (power), 16 VCCINT (power), 22 GND (power), 29 GND (power), 32 VCCINT (power), 37 GND (power), 43 VCCINT (power), 45 GND (power), 51 GND (power), 58 M1 (in), 59 GND (power), 60 M0 (in), 62 M2 (in), 69 GND (power), 75 GND (power), 77 VCCINT (power), 83 GND (power), 88 VCCINT (power), 91 GND (power), 98 GND (power), 104 VCCINT (power), 106 GND (power), 112 GND (power), 119 GND (power), 120 DONE (io), 122 PROGRAM (in), 129 GND (power), 135 GND (power), 137 VCCINT (power), 143 GND (power), 148 VCCINT (power), 151 GND (power), 158 GND (power), 164 VCCINT (power), 166 GND (power), 172 GND (power), 179 CCLK (io), 181 TDO (out), 182 GND (power), 183 TDI (in), 190 GND (power), 196 GND (power), 198 VCCINT (power), 204 GND (power), 211 GND (power), 214 VCCINT (power), 219 GND (power), 225 VCCINT (power), 227 GND (power), 233 GND (power), 239 TCK (in)

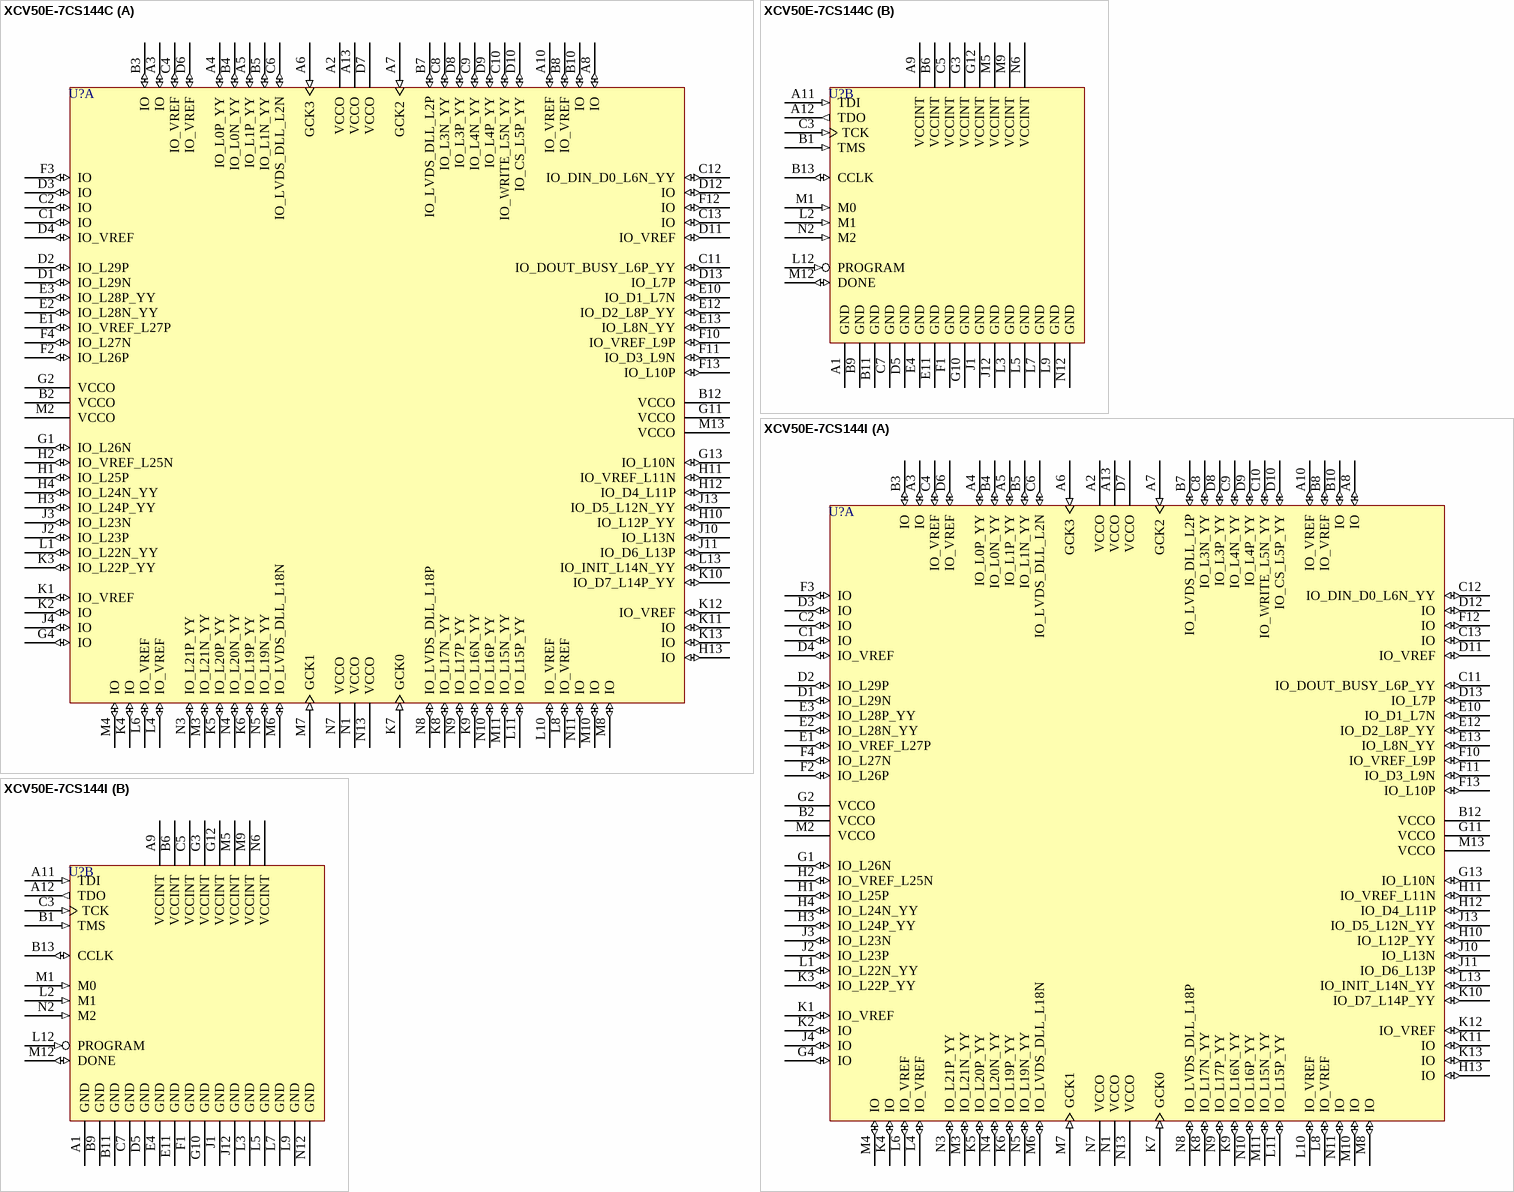
[diagram p5: symbols XCV50E-7CS144C to XCV50E-7CS144I]

## XCV50E-7CS144C
designator U?
Virtex-E 1.8V FPGA, 144-Ball CSBGA, Commercial Grade; PackageDocument: ver1.0, Jun-2000; Note: Solder pads are defined by the copper, i.e. non-soldermask defined (NSMD); Published: 19-Sep-2001; LatestRevisionDate: 17-Sep-2003; LatestRevisionNote: PCB Footprint dimensions updated; DatasheetDocument: Mar-2003; PackageReference: CS144; Publisher: Altium Limited
footprint CS144 (144-Ball Chip Scale Ball Grid Array (CS144))
3D model XCV50E-CS144 (144-Ball Chip Scale Ball Grid Array (CS144))
signal-integrity model XCV50E_CS144 (Virtex-E)
part A pins: A2 VCCO (power), A3 IO (io), A4 IO_L0P_YY (io), A5 IO_L1P_YY (io), A6 GCK3 (in), A7 GCK2 (in), A8 IO (io), A10 IO_VREF (io), A13 VCCO (power), B2 VCCO (power), B3 IO (io), B4 IO_L0N_YY (io), B5 IO_L1N_YY (io), B7 IO_LVDS_DLL_L2P (io), B8 IO_VREF (io), B10 IO (io), B12 VCCO (power), C1 IO (io), C2 IO (io), C4 IO_VREF (io), C6 IO_LVDS_DLL_L2N (io), C8 IO_L3N_YY (io), C9 IO_L4N_YY (io), C10 IO_WRITE_L5N_YY (io), C11 IO_DOUT_BUSY_L6P_YY (io), C12 IO_DIN_D0_L6N_YY (io), C13 IO (io), D1 IO_L29N (io), D2 IO_L29P (io), D3 IO (io), D4 IO_VREF (io), D6 IO_VREF (io), D7 VCCO (power), D8 IO_L3P_YY (io), D9 IO_L4P_YY (io), D10 IO_CS_L5P_YY (io), D11 IO_VREF (io), D12 IO (io), D13 IO_L7P (io), E1 IO_VREF_L27P (io), E2 IO_L28N_YY (io), E3 IO_L28P_YY (io), E10 IO_D1_L7N (io), E12 IO_D2_L8P_YY (io), E13 IO_L8N_YY (io), F2 IO_L26P (io), F3 IO (io), F4 IO_L27N (io), F10 IO_VREF_L9P (io), F11 IO_D3_L9N (io), F12 IO (io), F13 IO_L10P (io), G1 IO_L26N (io), G2 VCCO (power), G4 IO (io), G11 VCCO (power), G13 IO_L10N (io), H1 IO_L25P (io), H2 IO_VREF_L25N (io), H3 IO_L24P_YY (io), H4 IO_L24N_YY (io), H10 IO_L12P_YY (io), H11 IO_VREF_L11N (io), H12 IO_D4_L11P (io), H13 IO (io), J2 IO_L23P (io), J3 IO_L23N (io), J4 IO (io), J10 IO_L13N (io), J11 IO_D6_L13P (io), J13 IO_D5_L12N_YY (io), K1 IO_VREF (io), K2 IO (io), K3 IO_L22P_YY (io), K4 IO (io), K5 IO_L20P_YY (io), K6 IO_L19P_YY (io), K7 GCK0 (in), K8 IO_L17N_YY (io), K9 IO_L16N_YY (io), K10 IO_D7_L14P_YY (io), K11 IO (io), K12 IO_VREF (io), K13 IO (io), L1 IO_L22N_YY (io), L4 IO_VREF (io), L6 IO_VREF (io), L8 IO_VREF (io), L10 IO_VREF (io), L11 IO_L15P_YY (io), L13 IO_INIT_L14N_YY (io), M2 VCCO (power), M3 IO_L21N_YY (io), M4 IO (io), M6 IO_LVDS_DLL_L18N (io), M7 GCK1 (in), M8 IO (io), M10 IO (io), M11 IO_L15N_YY (io), M13 VCCO (power), N1 VCCO (power), N3 IO_L21P_YY (io), N4 IO_L20N_YY (io), N5 IO_L19N_YY (io), N7 VCCO (power), N8 IO_LVDS_DLL_L18P (io), N9 IO_L17P_YY (io), N10 IO_L16P_YY (io), N11 IO (io), N13 VCCO (power)
part B pins: A1 GND (power), A9 VCCINT (power), A11 TDI (in), A12 TDO (out), B1 TMS (in), B6 VCCINT (power), B9 GND (power), B11 GND (power), B13 CCLK (io), C3 TCK (in), C5 VCCINT (power), C7 GND (power), D5 GND (power), E4 GND (power), E11 GND (power), F1 GND (power), G3 VCCINT (power), G10 GND (power), G12 VCCINT (power), J1 GND (power), J12 GND (power), L2 M1 (in), L3 GND (power), L5 GND (power), L7 GND (power), L9 GND (power), L12 PROGRAM (in), M1 M0 (in), M5 VCCINT (power), M9 VCCINT (power), M12 DONE (io), N2 M2 (in), N6 VCCINT (power), N12 GND (power)

## XCV50E-7CS144I
designator U?
Virtex-E 1.8V FPGA, 144-Ball CSBGA, Industrial Grade; PackageDocument: ver1.0, Jun-2000; Note: Solder pads are defined by the copper, i.e. non-soldermask defined (NSMD); Published: 19-Sep-2001; LatestRevisionDate: 17-Sep-2003; LatestRevisionNote: PCB Footprint dimensions updated; DatasheetDocument: Mar-2003; PackageReference: CS144; Publisher: Altium Limited
footprint CS144 (144-Ball Chip Scale Ball Grid Array (CS144))
3D model XCV50E-CS144 (144-Ball Chip Scale Ball Grid Array (CS144))
signal-integrity model XCV50E_CS144 (Virtex-E)
part A pins: A2 VCCO (power), A3 IO (io), A4 IO_L0P_YY (io), A5 IO_L1P_YY (io), A6 GCK3 (in), A7 GCK2 (in), A8 IO (io), A10 IO_VREF (io), A13 VCCO (power), B2 VCCO (power), B3 IO (io), B4 IO_L0N_YY (io), B5 IO_L1N_YY (io), B7 IO_LVDS_DLL_L2P (io), B8 IO_VREF (io), B10 IO (io), B12 VCCO (power), C1 IO (io), C2 IO (io), C4 IO_VREF (io), C6 IO_LVDS_DLL_L2N (io), C8 IO_L3N_YY (io), C9 IO_L4N_YY (io), C10 IO_WRITE_L5N_YY (io), C11 IO_DOUT_BUSY_L6P_YY (io), C12 IO_DIN_D0_L6N_YY (io), C13 IO (io), D1 IO_L29N (io), D2 IO_L29P (io), D3 IO (io), D4 IO_VREF (io), D6 IO_VREF (io), D7 VCCO (power), D8 IO_L3P_YY (io), D9 IO_L4P_YY (io), D10 IO_CS_L5P_YY (io), D11 IO_VREF (io), D12 IO (io), D13 IO_L7P (io), E1 IO_VREF_L27P (io), E2 IO_L28N_YY (io), E3 IO_L28P_YY (io), E10 IO_D1_L7N (io), E12 IO_D2_L8P_YY (io), E13 IO_L8N_YY (io), F2 IO_L26P (io), F3 IO (io), F4 IO_L27N (io), F10 IO_VREF_L9P (io), F11 IO_D3_L9N (io), F12 IO (io), F13 IO_L10P (io), G1 IO_L26N (io), G2 VCCO (power), G4 IO (io), G11 VCCO (power), G13 IO_L10N (io), H1 IO_L25P (io), H2 IO_VREF_L25N (io), H3 IO_L24P_YY (io), H4 IO_L24N_YY (io), H10 IO_L12P_YY (io), H11 IO_VREF_L11N (io), H12 IO_D4_L11P (io), H13 IO (io), J2 IO_L23P (io), J3 IO_L23N (io), J4 IO (io), J10 IO_L13N (io), J11 IO_D6_L13P (io), J13 IO_D5_L12N_YY (io), K1 IO_VREF (io), K2 IO (io), K3 IO_L22P_YY (io), K4 IO (io), K5 IO_L20P_YY (io), K6 IO_L19P_YY (io), K7 GCK0 (in), K8 IO_L17N_YY (io), K9 IO_L16N_YY (io), K10 IO_D7_L14P_YY (io), K11 IO (io), K12 IO_VREF (io), K13 IO (io), L1 IO_L22N_YY (io), L4 IO_VREF (io), L6 IO_VREF (io), L8 IO_VREF (io), L10 IO_VREF (io), L11 IO_L15P_YY (io), L13 IO_INIT_L14N_YY (io), M2 VCCO (power), M3 IO_L21N_YY (io), M4 IO (io), M6 IO_LVDS_DLL_L18N (io), M7 GCK1 (in), M8 IO (io), M10 IO (io), M11 IO_L15N_YY (io), M13 VCCO (power), N1 VCCO (power), N3 IO_L21P_YY (io), N4 IO_L20N_YY (io), N5 IO_L19N_YY (io), N7 VCCO (power), N8 IO_LVDS_DLL_L18P (io), N9 IO_L17P_YY (io), N10 IO_L16P_YY (io), N11 IO (io), N13 VCCO (power)
part B pins: A1 GND (power), A9 VCCINT (power), A11 TDI (in), A12 TDO (out), B1 TMS (in), B6 VCCINT (power), B9 GND (power), B11 GND (power), B13 CCLK (io), C3 TCK (in), C5 VCCINT (power), C7 GND (power), D5 GND (power), E4 GND (power), E11 GND (power), F1 GND (power), G3 VCCINT (power), G10 GND (power), G12 VCCINT (power), J1 GND (power), J12 GND (power), L2 M1 (in), L3 GND (power), L5 GND (power), L7 GND (power), L9 GND (power), L12 PROGRAM (in), M1 M0 (in), M5 VCCINT (power), M9 VCCINT (power), M12 DONE (io), N2 M2 (in), N6 VCCINT (power), N12 GND (power)

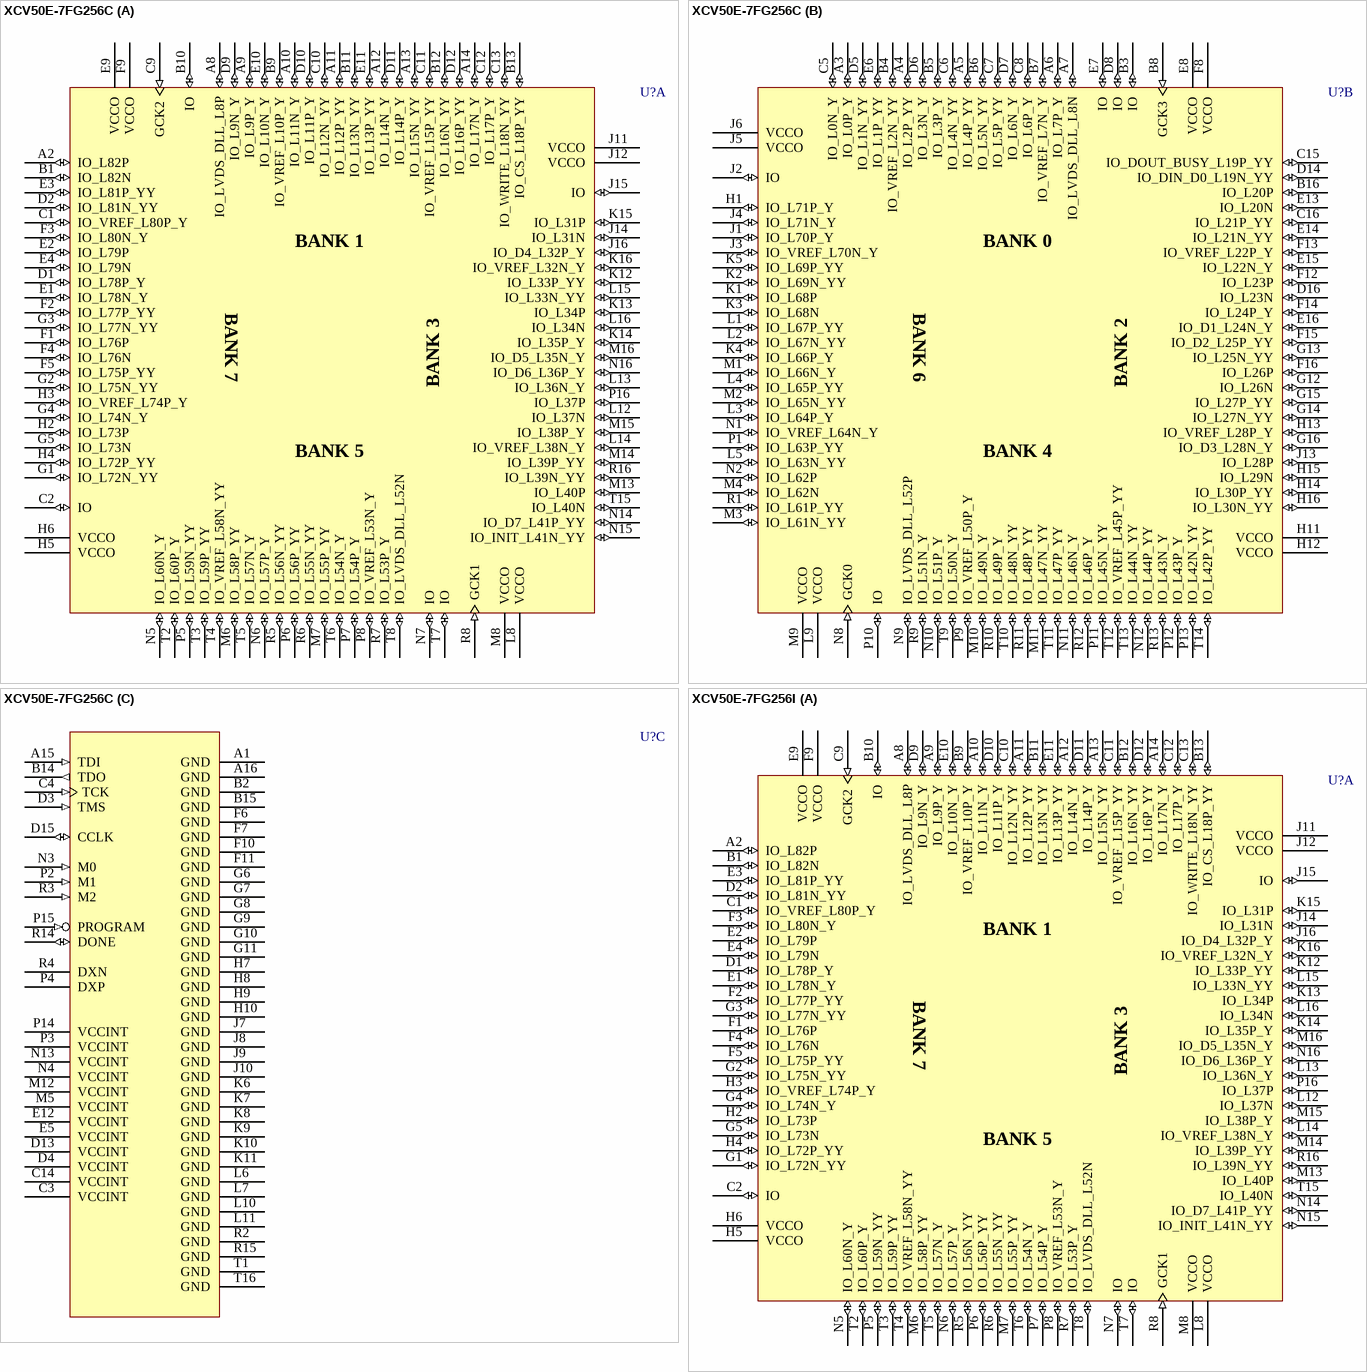
[diagram p6: symbols XCV50E-7FG256C to XCV50E-7FG256I]

## XCV50E-7FG256C
designator U?
Virtex-E 1.8V FPGA, 256-Ball FBGA, Commercial Grade; PackageDocument: ver1.1, Apr-2001; Note: Solder pads are defined by the copper, i.e. non-soldermask defined (NSMD); Published: 19-Sep-2001; LatestRevisionDate: 17-Jul-2002; LatestRevisionNote: Re-released for DXP Platform.; DatasheetDocument: Mar-2003; PackageReference: FG256; Publisher: Altium Limited; Code_JEDEC: MO-151-AAF-1; Code_IPC: PBGA 17X17 FE256
footprint FG256 (256-Ball Fine Pitch Ball Grid Array (FG256))
3D model XCV50E-FG256 (256-Ball Fine Pitch Ball Grid Array (FG256))
signal-integrity model XCV50E_FG256 (Virtex-E)
part A pins: A2 IO_L82P (io), A8 IO_LVDS_DLL_L8P (io), A9 IO_L9P_Y (io), A10 IO_L11N_Y (io), A11 IO_L12P_YY (io), A12 IO_L14N_Y (io), A13 IO_L15N_YY (io), A14 IO_L17N_Y (io), B1 IO_L82N (io), B9 IO_VREF_L10P_Y (io), B10 IO (io), B11 IO_L13N_YY (io), B12 IO_L16N_YY (io), B13 IO_CS_L18P_YY (io), C1 IO_VREF_L80P_Y (io), C2 IO (io), C9 GCK2 (in), C10 IO_L12N_YY (io), C11 IO_VREF_L15P_YY (io), C12 IO_L17P_Y (io), C13 IO_WRITE_L18N_YY (io), D1 IO_L78P_Y (io), D2 IO_L81N_YY (io), D9 IO_L9N_Y (io), D10 IO_L11P_Y (io), D11 IO_L14P_Y (io), D12 IO_L16P_YY (io), E1 IO_L78N_Y (io), E2 IO_L79P (io), E3 IO_L81P_YY (io), E4 IO_L79N (io), E9 VCCO (power), E10 IO_L10N_Y (io), E11 IO_L13P_YY (io), F1 IO_L76P (io), F2 IO_L77P_YY (io), F3 IO_L80N_Y (io), F4 IO_L76N (io), F5 IO_L75P_YY (io), F9 VCCO (power), G1 IO_L72N_YY (io), G2 IO_L75N_YY (io), G3 IO_L77N_YY (io), G4 IO_L74N_Y (io), G5 IO_L73N (io), H2 IO_L73P (io), H3 IO_VREF_L74P_Y (io), H4 IO_L72P_YY (io), H5 VCCO (power), H6 VCCO (power), J11 VCCO (power), J12 VCCO (power), J14 IO_L31N (io), J15 IO (io), J16 IO_D4_L32P_Y (io), K12 IO_L33P_YY (io), K13 IO_L34P (io), K14 IO_L35P_Y (io), K15 IO_L31P (io), K16 IO_VREF_L32N_Y (io), L8 VCCO (power), L12 IO_L37N (io), L13 IO_L36N_Y (io), L14 IO_VREF_L38N_Y (io), L15 IO_L33N_YY (io), L16 IO_L34N (io), M6 IO_L58P_YY (io), M7 IO_L55P_YY (io), M8 VCCO (power), M13 IO_L40P (io), M14 IO_L39P_YY (io), M15 IO_L38P_Y (io), M16 IO_D5_L35N_Y (io), N5 IO_L60N_Y (io), N6 IO_L57P_Y (io), N7 IO (io), N14 IO_D7_L41P_YY (io), N15 IO_INIT_L41N_YY (io), N16 IO_D6_L36P_Y (io), P5 IO_L59N_YY (io), P6 IO_L56P_YY (io), P7 IO_L54P_Y (io), P8 IO_VREF_L53N_Y (io), P16 IO_L37P (io), R5 IO_L56N_YY (io), R6 IO_L55N_YY (io), R7 IO_L53P_Y (io), R8 GCK1 (in), R16 IO_L39N_YY (io), T2 IO_L60P_Y (io), T3 IO_L59P_YY (io), T4 IO_VREF_L58N_YY (io), T5 IO_L57N_Y (io), T6 IO_L54N_Y (io), T7 IO (io), T8 IO_LVDS_DLL_L52N (io), T15 IO_L40N (io)
part B pins: A3 IO_L0P_Y (io), A4 IO_L2P_YY (io), A5 IO_L4P_YY (io), A6 IO_L7P_Y (io), A7 IO_LVDS_DLL_L8N (io), B3 IO (io), B4 IO_VREF_L2N_YY (io), B5 IO_L3P_Y (io), B6 IO_L5N_YY (io), B7 IO_VREF_L7N_Y (io), B8 GCK3 (in), B16 IO_L20P (io), C5 IO_L0N_Y (io), C6 IO_L4N_YY (io), C7 IO_L5P_YY (io), C8 IO_L6P_Y (io), C15 IO_DOUT_BUSY_L19P_YY (io), C16 IO_L21P_YY (io), D5 IO_L1N_YY (io), D6 IO_L3N_Y (io), D7 IO_L6N_Y (io), D8 IO (io), D14 IO_DIN_D0_L19N_YY (io), D16 IO_L23N (io), E6 IO_L1P_YY (io), E7 IO (io), E8 VCCO (power), E13 IO_L20N (io), E14 IO_L21N_YY (io), E15 IO_L22N_Y (io), E16 IO_D1_L24N_Y (io), F8 VCCO (power), F12 IO_L23P (io), F13 IO_VREF_L22P_Y (io), F14 IO_L24P_Y (io), F15 IO_D2_L25P_YY (io), F16 IO_L26P (io), G12 IO_L26N (io), G13 IO_L25N_YY (io), G14 IO_L27N_YY (io), G15 IO_L27P_YY (io), G16 IO_D3_L28N_Y (io), H1 IO_L71P_Y (io), H11 VCCO (power), H12 VCCO (power), H13 IO_VREF_L28P_Y (io), H14 IO_L30P_YY (io), H15 IO_L29N (io), H16 IO_L30N_YY (io), J1 IO_L70P_Y (io), J2 IO (io), J3 IO_VREF_L70N_Y (io), J4 IO_L71N_Y (io), J5 VCCO (power), J6 VCCO (power), J13 IO_L28P (io), K1 IO_L68P (io), K2 IO_L69N_YY (io), K3 IO_L68N (io), K4 IO_L66P_Y (io), K5 IO_L69P_YY (io), L1 IO_L67P_YY (io), L2 IO_L67N_YY (io), L3 IO_L64P_Y (io), L4 IO_L65P_YY (io), L5 IO_L63N_YY (io), L9 VCCO (power), M1 IO_L66N_Y (io), M2 IO_L65N_YY (io), M3 IO_L61N_YY (io), M4 IO_L62N (io), M9 VCCO (power), M10 IO_L49N_Y (io), M11 IO_L47N_YY (io), N1 IO_VREF_L64N_Y (io), N2 IO_L62P (io), N8 GCK0 (in), N9 IO_LVDS_DLL_L52P (io), N10 IO_L51P_Y (io), N11 IO_L46N_Y (io), N12 IO_L44P_YY (io), P1 IO_L63P_YY (io), P9 IO_VREF_L50P_Y (io), P10 IO (io), P11 IO_L45N_YY (io), P12 IO_L43P_Y (io), P13 IO_L42N_YY (io), R1 IO_L61P_YY (io), R9 IO_L51N_Y (io), R10 IO_L49P_Y (io), R11 IO_L48P_YY (io), R12 IO_L46P_Y (io), R13 IO_L43N_Y (io), T9 IO_L50N_Y (io), T10 IO_L48N_YY (io), T11 IO_L47P_YY (io), T12 IO_VREF_L45P_YY (io), T13 IO_L44N_YY (io), T14 IO_L42P_YY (io)
part C pins: A1 GND (power), A15 TDI (in), A16 GND (power), B2 GND (power), B14 TDO (out), B15 GND (power), C3 VCCINT (power), C4 TCK (in), C14 VCCINT (power), D3 TMS (in), D4 VCCINT (power), D13 VCCINT (power), D15 CCLK (io), E5 VCCINT (power), E12 VCCINT (power), F6 GND (power), F7 GND (power), F10 GND (power), F11 GND (power), G6 GND (power), G7 GND (power), G8 GND (power), G9 GND (power), G10 GND (power), G11 GND (power), H7 GND (power), H8 GND (power), H9 GND (power), H10 GND (power), J7 GND (power), J8 GND (power), J9 GND (power), J10 GND (power), K6 GND (power), K7 GND (power), K8 GND (power), K9 GND (power), K10 GND (power), K11 GND (power), L6 GND (power), L7 GND (power), L10 GND (power), L11 GND (power), M5 VCCINT (power), M12 VCCINT (power), N3 M0 (in), N4 VCCINT (power), N13 VCCINT (power), P2 M1 (in), P3 VCCINT (power), P4 DXP, P14 VCCINT (power), P15 PROGRAM (in), R2 GND (power), R3 M2 (in), R4 DXN, R14 DONE (io), R15 GND (power), T1 GND (power), T16 GND (power)
part A text: BANK 1; BANK 7; BANK 3; BANK 5
part B text: BANK 0; BANK 6; BANK 2; BANK 4

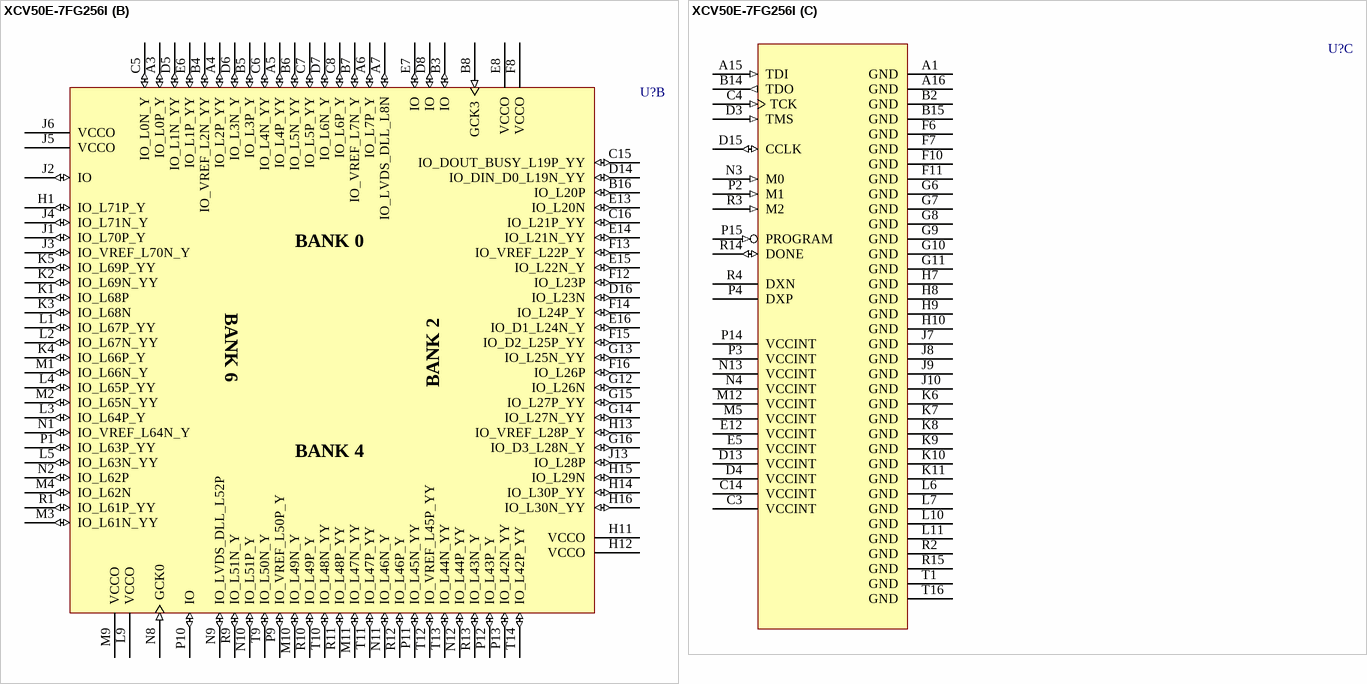
[diagram p7: symbol XCV50E-7FG256I]

## XCV50E-7FG256I
designator U?
Virtex-E 1.8V FPGA, 256-Ball FBGA, Industrial Grade; PackageDocument: ver1.1, Apr-2001; Note: Solder pads are defined by the copper, i.e. non-soldermask defined (NSMD); Published: 19-Sep-2001; LatestRevisionDate: 17-Jul-2002; LatestRevisionNote: Re-released for DXP Platform.; DatasheetDocument: Mar-2003; PackageReference: FG256; Publisher: Altium Limited; Code_JEDEC: MO-151-AAF-1; Code_IPC: PBGA 17X17 FE256
footprint FG256 (256-Ball Fine Pitch Ball Grid Array (FG256))
3D model XCV50E-FG256 (256-Ball Fine Pitch Ball Grid Array (FG256))
signal-integrity model XCV50E_FG256 (Virtex-E)
part A pins: A2 IO_L82P (io), A8 IO_LVDS_DLL_L8P (io), A9 IO_L9P_Y (io), A10 IO_L11N_Y (io), A11 IO_L12P_YY (io), A12 IO_L14N_Y (io), A13 IO_L15N_YY (io), A14 IO_L17N_Y (io), B1 IO_L82N (io), B9 IO_VREF_L10P_Y (io), B10 IO (io), B11 IO_L13N_YY (io), B12 IO_L16N_YY (io), B13 IO_CS_L18P_YY (io), C1 IO_VREF_L80P_Y (io), C2 IO (io), C9 GCK2 (in), C10 IO_L12N_YY (io), C11 IO_VREF_L15P_YY (io), C12 IO_L17P_Y (io), C13 IO_WRITE_L18N_YY (io), D1 IO_L78P_Y (io), D2 IO_L81N_YY (io), D9 IO_L9N_Y (io), D10 IO_L11P_Y (io), D11 IO_L14P_Y (io), D12 IO_L16P_YY (io), E1 IO_L78N_Y (io), E2 IO_L79P (io), E3 IO_L81P_YY (io), E4 IO_L79N (io), E9 VCCO (power), E10 IO_L10N_Y (io), E11 IO_L13P_YY (io), F1 IO_L76P (io), F2 IO_L77P_YY (io), F3 IO_L80N_Y (io), F4 IO_L76N (io), F5 IO_L75P_YY (io), F9 VCCO (power), G1 IO_L72N_YY (io), G2 IO_L75N_YY (io), G3 IO_L77N_YY (io), G4 IO_L74N_Y (io), G5 IO_L73N (io), H2 IO_L73P (io), H3 IO_VREF_L74P_Y (io), H4 IO_L72P_YY (io), H5 VCCO (power), H6 VCCO (power), J11 VCCO (power), J12 VCCO (power), J14 IO_L31N (io), J15 IO (io), J16 IO_D4_L32P_Y (io), K12 IO_L33P_YY (io), K13 IO_L34P (io), K14 IO_L35P_Y (io), K15 IO_L31P (io), K16 IO_VREF_L32N_Y (io), L8 VCCO (power), L12 IO_L37N (io), L13 IO_L36N_Y (io), L14 IO_VREF_L38N_Y (io), L15 IO_L33N_YY (io), L16 IO_L34N (io), M6 IO_L58P_YY (io), M7 IO_L55P_YY (io), M8 VCCO (power), M13 IO_L40P (io), M14 IO_L39P_YY (io), M15 IO_L38P_Y (io), M16 IO_D5_L35N_Y (io), N5 IO_L60N_Y (io), N6 IO_L57P_Y (io), N7 IO (io), N14 IO_D7_L41P_YY (io), N15 IO_INIT_L41N_YY (io), N16 IO_D6_L36P_Y (io), P5 IO_L59N_YY (io), P6 IO_L56P_YY (io), P7 IO_L54P_Y (io), P8 IO_VREF_L53N_Y (io), P16 IO_L37P (io), R5 IO_L56N_YY (io), R6 IO_L55N_YY (io), R7 IO_L53P_Y (io), R8 GCK1 (in), R16 IO_L39N_YY (io), T2 IO_L60P_Y (io), T3 IO_L59P_YY (io), T4 IO_VREF_L58N_YY (io), T5 IO_L57N_Y (io), T6 IO_L54N_Y (io), T7 IO (io), T8 IO_LVDS_DLL_L52N (io), T15 IO_L40N (io)
part B pins: A3 IO_L0P_Y (io), A4 IO_L2P_YY (io), A5 IO_L4P_YY (io), A6 IO_L7P_Y (io), A7 IO_LVDS_DLL_L8N (io), B3 IO (io), B4 IO_VREF_L2N_YY (io), B5 IO_L3P_Y (io), B6 IO_L5N_YY (io), B7 IO_VREF_L7N_Y (io), B8 GCK3 (in), B16 IO_L20P (io), C5 IO_L0N_Y (io), C6 IO_L4N_YY (io), C7 IO_L5P_YY (io), C8 IO_L6P_Y (io), C15 IO_DOUT_BUSY_L19P_YY (io), C16 IO_L21P_YY (io), D5 IO_L1N_YY (io), D6 IO_L3N_Y (io), D7 IO_L6N_Y (io), D8 IO (io), D14 IO_DIN_D0_L19N_YY (io), D16 IO_L23N (io), E6 IO_L1P_YY (io), E7 IO (io), E8 VCCO (power), E13 IO_L20N (io), E14 IO_L21N_YY (io), E15 IO_L22N_Y (io), E16 IO_D1_L24N_Y (io), F8 VCCO (power), F12 IO_L23P (io), F13 IO_VREF_L22P_Y (io), F14 IO_L24P_Y (io), F15 IO_D2_L25P_YY (io), F16 IO_L26P (io), G12 IO_L26N (io), G13 IO_L25N_YY (io), G14 IO_L27N_YY (io), G15 IO_L27P_YY (io), G16 IO_D3_L28N_Y (io), H1 IO_L71P_Y (io), H11 VCCO (power), H12 VCCO (power), H13 IO_VREF_L28P_Y (io), H14 IO_L30P_YY (io), H15 IO_L29N (io), H16 IO_L30N_YY (io), J1 IO_L70P_Y (io), J2 IO (io), J3 IO_VREF_L70N_Y (io), J4 IO_L71N_Y (io), J5 VCCO (power), J6 VCCO (power), J13 IO_L28P (io), K1 IO_L68P (io), K2 IO_L69N_YY (io), K3 IO_L68N (io), K4 IO_L66P_Y (io), K5 IO_L69P_YY (io), L1 IO_L67P_YY (io), L2 IO_L67N_YY (io), L3 IO_L64P_Y (io), L4 IO_L65P_YY (io), L5 IO_L63N_YY (io), L9 VCCO (power), M1 IO_L66N_Y (io), M2 IO_L65N_YY (io), M3 IO_L61N_YY (io), M4 IO_L62N (io), M9 VCCO (power), M10 IO_L49N_Y (io), M11 IO_L47N_YY (io), N1 IO_VREF_L64N_Y (io), N2 IO_L62P (io), N8 GCK0 (in), N9 IO_LVDS_DLL_L52P (io), N10 IO_L51P_Y (io), N11 IO_L46N_Y (io), N12 IO_L44P_YY (io), P1 IO_L63P_YY (io), P9 IO_VREF_L50P_Y (io), P10 IO (io), P11 IO_L45N_YY (io), P12 IO_L43P_Y (io), P13 IO_L42N_YY (io), R1 IO_L61P_YY (io), R9 IO_L51N_Y (io), R10 IO_L49P_Y (io), R11 IO_L48P_YY (io), R12 IO_L46P_Y (io), R13 IO_L43N_Y (io), T9 IO_L50N_Y (io), T10 IO_L48N_YY (io), T11 IO_L47P_YY (io), T12 IO_VREF_L45P_YY (io), T13 IO_L44N_YY (io), T14 IO_L42P_YY (io)
part C pins: A1 GND (power), A15 TDI (in), A16 GND (power), B2 GND (power), B14 TDO (out), B15 GND (power), C3 VCCINT (power), C4 TCK (in), C14 VCCINT (power), D3 TMS (in), D4 VCCINT (power), D13 VCCINT (power), D15 CCLK (io), E5 VCCINT (power), E12 VCCINT (power), F6 GND (power), F7 GND (power), F10 GND (power), F11 GND (power), G6 GND (power), G7 GND (power), G8 GND (power), G9 GND (power), G10 GND (power), G11 GND (power), H7 GND (power), H8 GND (power), H9 GND (power), H10 GND (power), J7 GND (power), J8 GND (power), J9 GND (power), J10 GND (power), K6 GND (power), K7 GND (power), K8 GND (power), K9 GND (power), K10 GND (power), K11 GND (power), L6 GND (power), L7 GND (power), L10 GND (power), L11 GND (power), M5 VCCINT (power), M12 VCCINT (power), N3 M0 (in), N4 VCCINT (power), N13 VCCINT (power), P2 M1 (in), P3 VCCINT (power), P4 DXP, P14 VCCINT (power), P15 PROGRAM (in), R2 GND (power), R3 M2 (in), R4 DXN, R14 DONE (io), R15 GND (power), T1 GND (power), T16 GND (power)
part A text: BANK 1; BANK 7; BANK 3; BANK 5
part B text: BANK 0; BANK 6; BANK 2; BANK 4

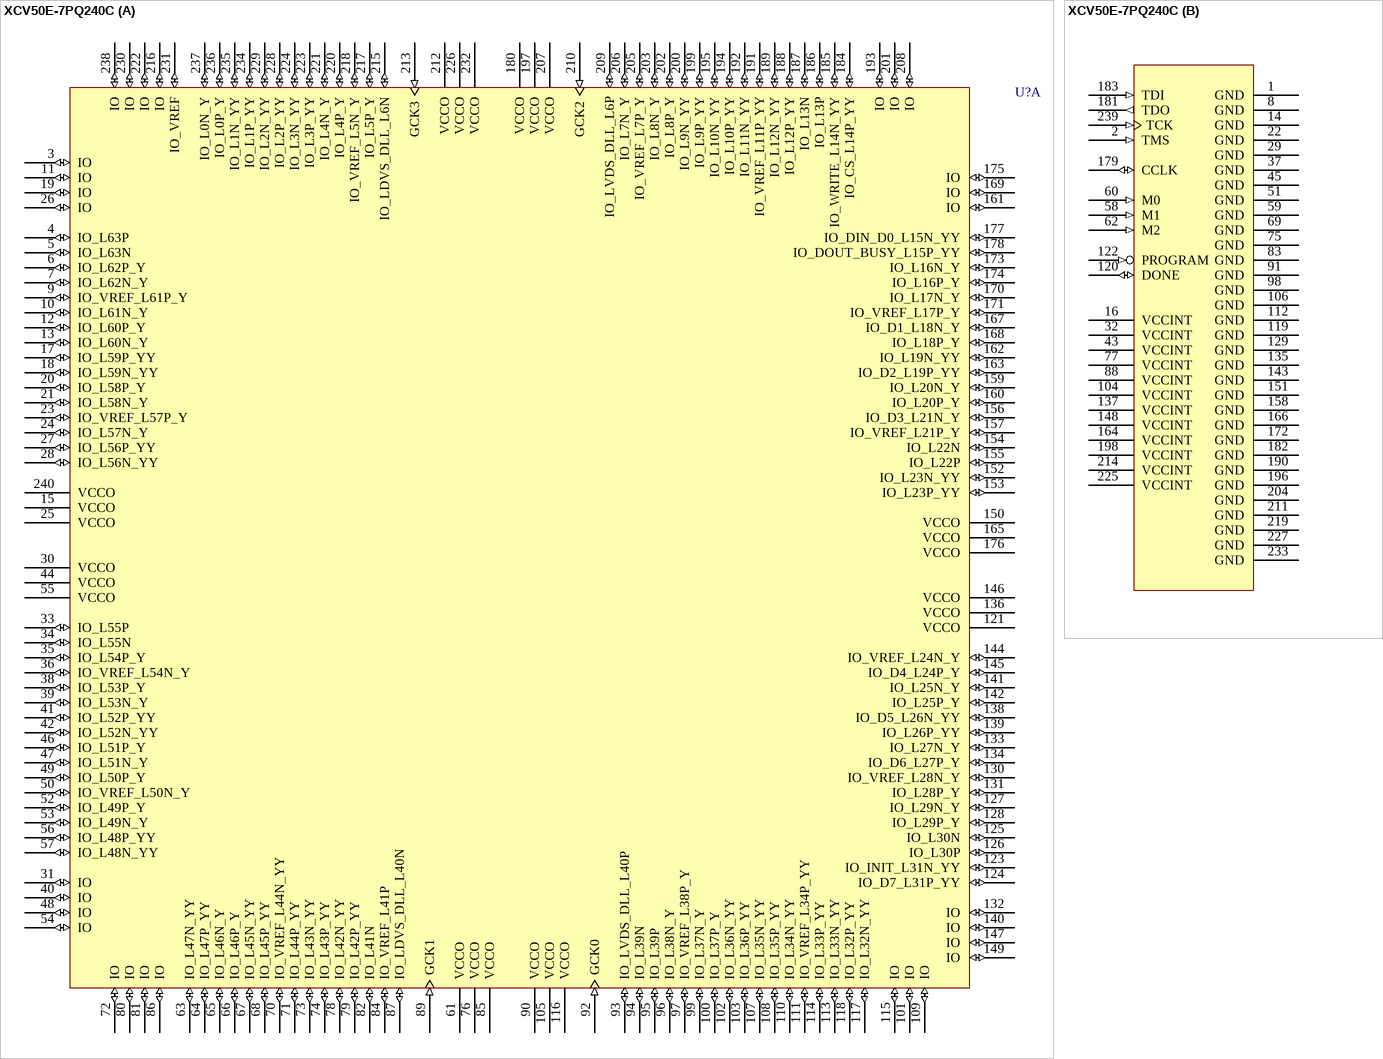
[diagram p8: symbol XCV50E-7PQ240C]

## XCV50E-7PQ240C
designator U?
Virtex-E 1.8V FPGA, 240-Pin PQFP, Commercial Grade; PackageDocument: ver1.1, Oct-2002; Published: 19-Sep-2001; LatestRevisionDate: 17-Jul-2002; LatestRevisionNote: Re-released for DXP Platform.; DatasheetDocument: Mar-2003; PackageReference: PQ240; Publisher: Altium Limited; Code_JEDEC: MO-143-GA
footprint PQ240 (240-Pin Plastic Quad Flat Pack (PQ240))
3D model XCV50E-PQ240 (240-Pin Plastic Quad Flat Pack (PQ240))
signal-integrity model XCV50E_PQ240 (Virtex-E)
part A pins: 3 IO (io), 4 IO_L63P (io), 5 IO_L63N (io), 6 IO_L62P_Y (io), 7 IO_L62N_Y (io), 9 IO_VREF_L61P_Y (io), 10 IO_L61N_Y (io), 11 IO (io), 12 IO_L60P_Y (io), 13 IO_L60N_Y (io), 15 VCCO (power), 17 IO_L59P_YY (io), 18 IO_L59N_YY (io), 19 IO (io), 20 IO_L58P_Y (io), 21 IO_L58N_Y (io), 23 IO_VREF_L57P_Y (io), 24 IO_L57N_Y (io), 25 VCCO (power), 26 IO (io), 27 IO_L56P_YY (io), 28 IO_L56N_YY (io), 30 VCCO (power), 31 IO (io), 33 IO_L55P (io), 34 IO_L55N (io), 35 IO_L54P_Y (io), 36 IO_VREF_L54N_Y (io), 38 IO_L53P_Y (io), 39 IO_L53N_Y (io), 40 IO (io), 41 IO_L52P_YY (io), 42 IO_L52N_YY (io), 44 VCCO (power), 46 IO_L51P_Y (io), 47 IO_L51N_Y (io), 48 IO (io), 49 IO_L50P_Y (io), 50 IO_VREF_L50N_Y (io), 52 IO_L49P_Y (io), 53 IO_L49N_Y (io), 54 IO (io), 55 VCCO (power), 56 IO_L48P_YY (io), 57 IO_L48N_YY (io), 61 VCCO (power), 63 IO_L47N_YY (io), 64 IO_L47P_YY (io), 65 IO_L46N_Y (io), 66 IO_L46P_Y (io), 67 IO_L45N_YY (io), 68 IO_L45P_YY (io), 70 IO_VREF_L44N_YY (io), 71 IO_L44P_YY (io), 72 IO (io), 73 IO_L43N_YY (io), 74 IO_L43P_YY (io), 76 VCCO (power), 78 IO_L42N_YY (io), 79 IO_L42P_YY (io), 80 IO (io), 81 IO (io), 82 IO_L41N (io), 84 IO_VREF_L41P (io), 85 VCCO (power), 86 IO (io), 87 IO_LDVS_DLL_L40N (io), 89 GCK1 (in), 90 VCCO (power), 92 GCK0 (in), 93 IO_LVDS_DLL_L40P (io), 94 IO_L39N (io), 95 IO_L39P (io), 96 IO_L38N_Y (io), 97 IO_VREF_L38P_Y (io), 99 IO_L37N_Y (io), 100 IO_L37P_Y (io), 101 IO (io), 102 IO_L36N_YY (io), 103 IO_L36P_YY (io), 105 VCCO (power), 107 IO_L35N_YY (io), 108 IO_L35P_YY (io), 109 IO (io), 110 IO_L34N_YY (io), 111 IO_VREF_L34P_YY (io), 113 IO_L33N_YY (io), 114 IO_L33P_YY (io), 115 IO (io), 116 VCCO (power), 117 IO_L32N_YY (io), 118 IO_L32P_YY (io), 121 VCCO (power), 123 IO_INIT_L31N_YY (io), 124 IO_D7_L31P_YY (io), 125 IO_L30N (io), 126 IO_L30P (io), 127 IO_L29N_Y (io), 128 IO_L29P_Y (io), 130 IO_VREF_L28N_Y (io), 131 IO_L28P_Y (io), 132 IO (io), 133 IO_L27N_Y (io), 134 IO_D6_L27P_Y (io), 136 VCCO (power), 138 IO_D5_L26N_YY (io), 139 IO_L26P_YY (io), 140 IO (io), 141 IO_L25N_Y (io), 142 IO_L25P_Y (io), 144 IO_VREF_L24N_Y (io), 145 IO_D4_L24P_Y (io), 146 VCCO (power), 147 IO (io), 149 IO (io), 150 VCCO (power), 152 IO_L23N_YY (io), 153 IO_L23P_YY (io), 154 IO_L22N (io), 155 IO_L22P (io), 156 IO_D3_L21N_Y (io), 157 IO_VREF_L21P_Y (io), 159 IO_L20N_Y (io), 160 IO_L20P_Y (io), 161 IO (io), 162 IO_L19N_YY (io), 163 IO_D2_L19P_YY (io), 165 VCCO (power), 167 IO_D1_L18N_Y (io), 168 IO_L18P_Y (io), 169 IO (io), 170 IO_L17N_Y (io), 171 IO_VREF_L17P_Y (io), 173 IO_L16N_Y (io), 174 IO_L16P_Y (io), 175 IO (io), 176 VCCO (power), 177 IO_DIN_D0_L15N_YY (io), 178 IO_DOUT_BUSY_L15P_YY (io), 180 VCCO (power), 184 IO_CS_L14P_YY (io), 185 IO_WRITE_L14N_YY (io), 186 IO_L13P (io), 187 IO_L13N (io), 188 IO_L12P_YY (io), 189 IO_L12N_YY (io), 191 IO_VREF_L11P_YY (io), 192 IO_L11N_YY (io), 193 IO (io), 194 IO_L10P_YY (io), 195 IO_L10N_YY (io), 197 VCCO (power), 199 IO_L9P_YY (io), 200 IO_L9N_YY (io), 201 IO (io), 202 IO_L8P_Y (io), 203 IO_L8N_Y (io), 205 IO_VREF_L7P_Y (io), 206 IO_L7N_Y (io), 207 VCCO (power), 208 IO (io), 209 IO_LVDS_DLL_L6P (io), 210 GCK2 (in), 212 VCCO (power), 213 GCK3 (in), 215 IO_LDVS_DLL_L6N (io), 216 IO (io), 217 IO_L5P_Y (io), 218 IO_VREF_L5N_Y (io), 220 IO_L4P_Y (io), 221 IO_L4N_Y (io), 222 IO (io), 223 IO_L3P_YY (io), 224 IO_L3N_YY (io), 226 VCCO (power), 228 IO_L2P_YY (io), 229 IO_L2N_YY (io), 230 IO (io), 231 IO_VREF (io), 232 VCCO (power), 234 IO_L1P_YY (io), 235 IO_L1N_YY (io), 236 IO_L0P_Y (io), 237 IO_L0N_Y (io), 238 IO (io), 240 VCCO (power)
part B pins: 1 GND (power), 2 TMS (in), 8 GND (power), 14 GND (power), 16 VCCINT (power), 22 GND (power), 29 GND (power), 32 VCCINT (power), 37 GND (power), 43 VCCINT (power), 45 GND (power), 51 GND (power), 58 M1 (in), 59 GND (power), 60 M0 (in), 62 M2 (in), 69 GND (power), 75 GND (power), 77 VCCINT (power), 83 GND (power), 88 VCCINT (power), 91 GND (power), 98 GND (power), 104 VCCINT (power), 106 GND (power), 112 GND (power), 119 GND (power), 120 DONE (io), 122 PROGRAM (in), 129 GND (power), 135 GND (power), 137 VCCINT (power), 143 GND (power), 148 VCCINT (power), 151 GND (power), 158 GND (power), 164 VCCINT (power), 166 GND (power), 172 GND (power), 179 CCLK (io), 181 TDO (out), 182 GND (power), 183 TDI (in), 190 GND (power), 196 GND (power), 198 VCCINT (power), 204 GND (power), 211 GND (power), 214 VCCINT (power), 219 GND (power), 225 VCCINT (power), 227 GND (power), 233 GND (power), 239 TCK (in)

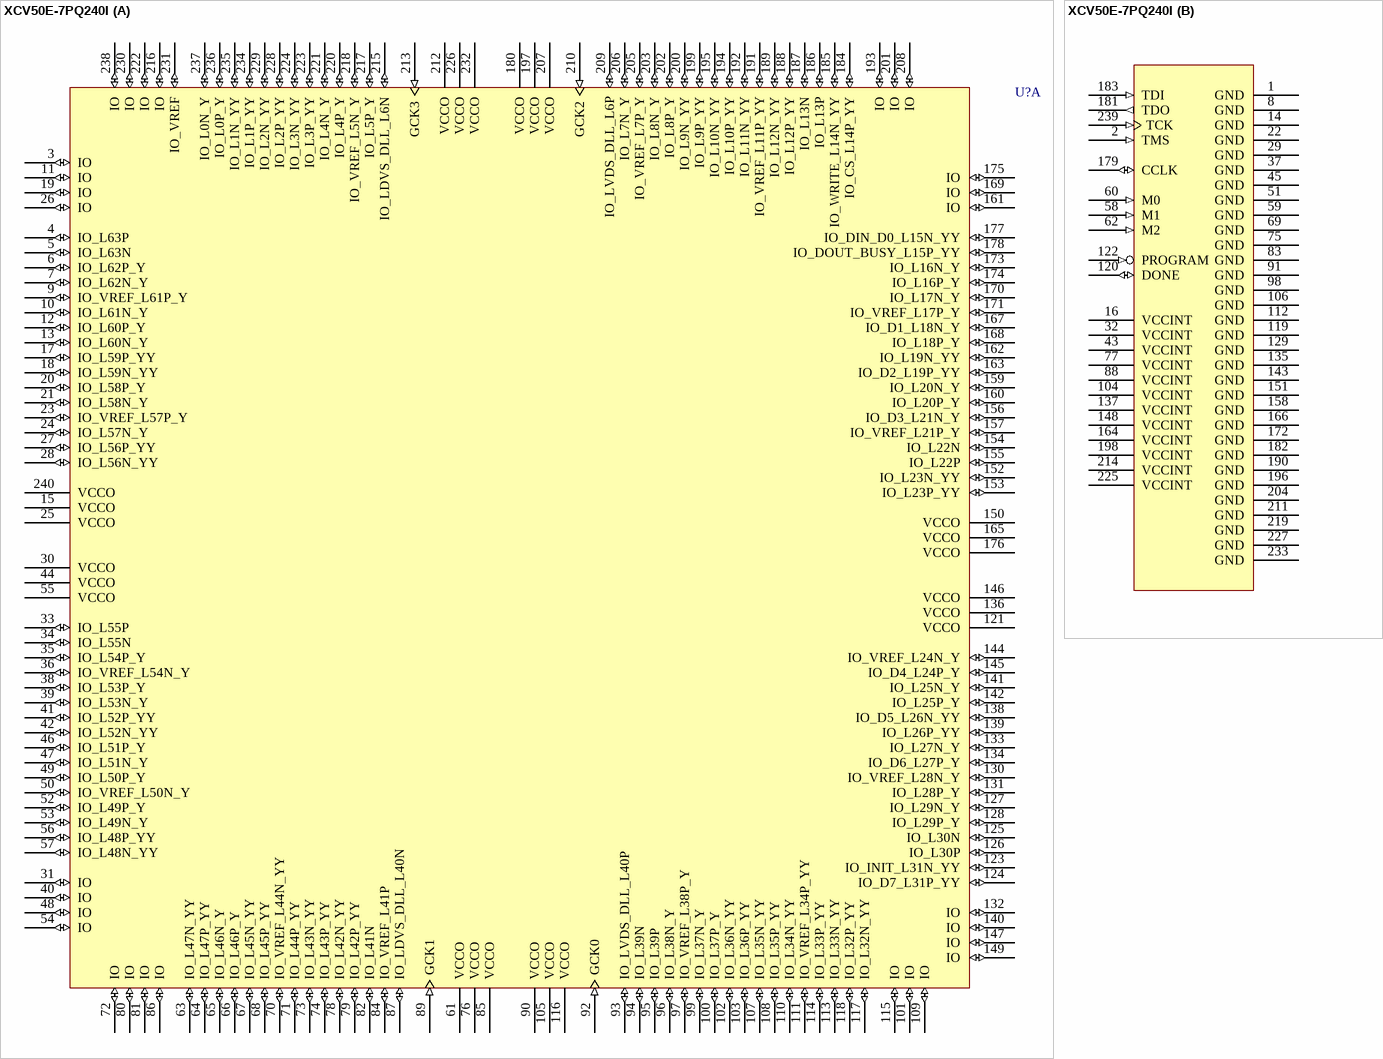
[diagram p9: symbol XCV50E-7PQ240I]